# Altium schematic symbol library SCH-29364_a_Library.SchLib: 148 symbols
Pins are listed as number, name and electrical type; pins without a type are passive.

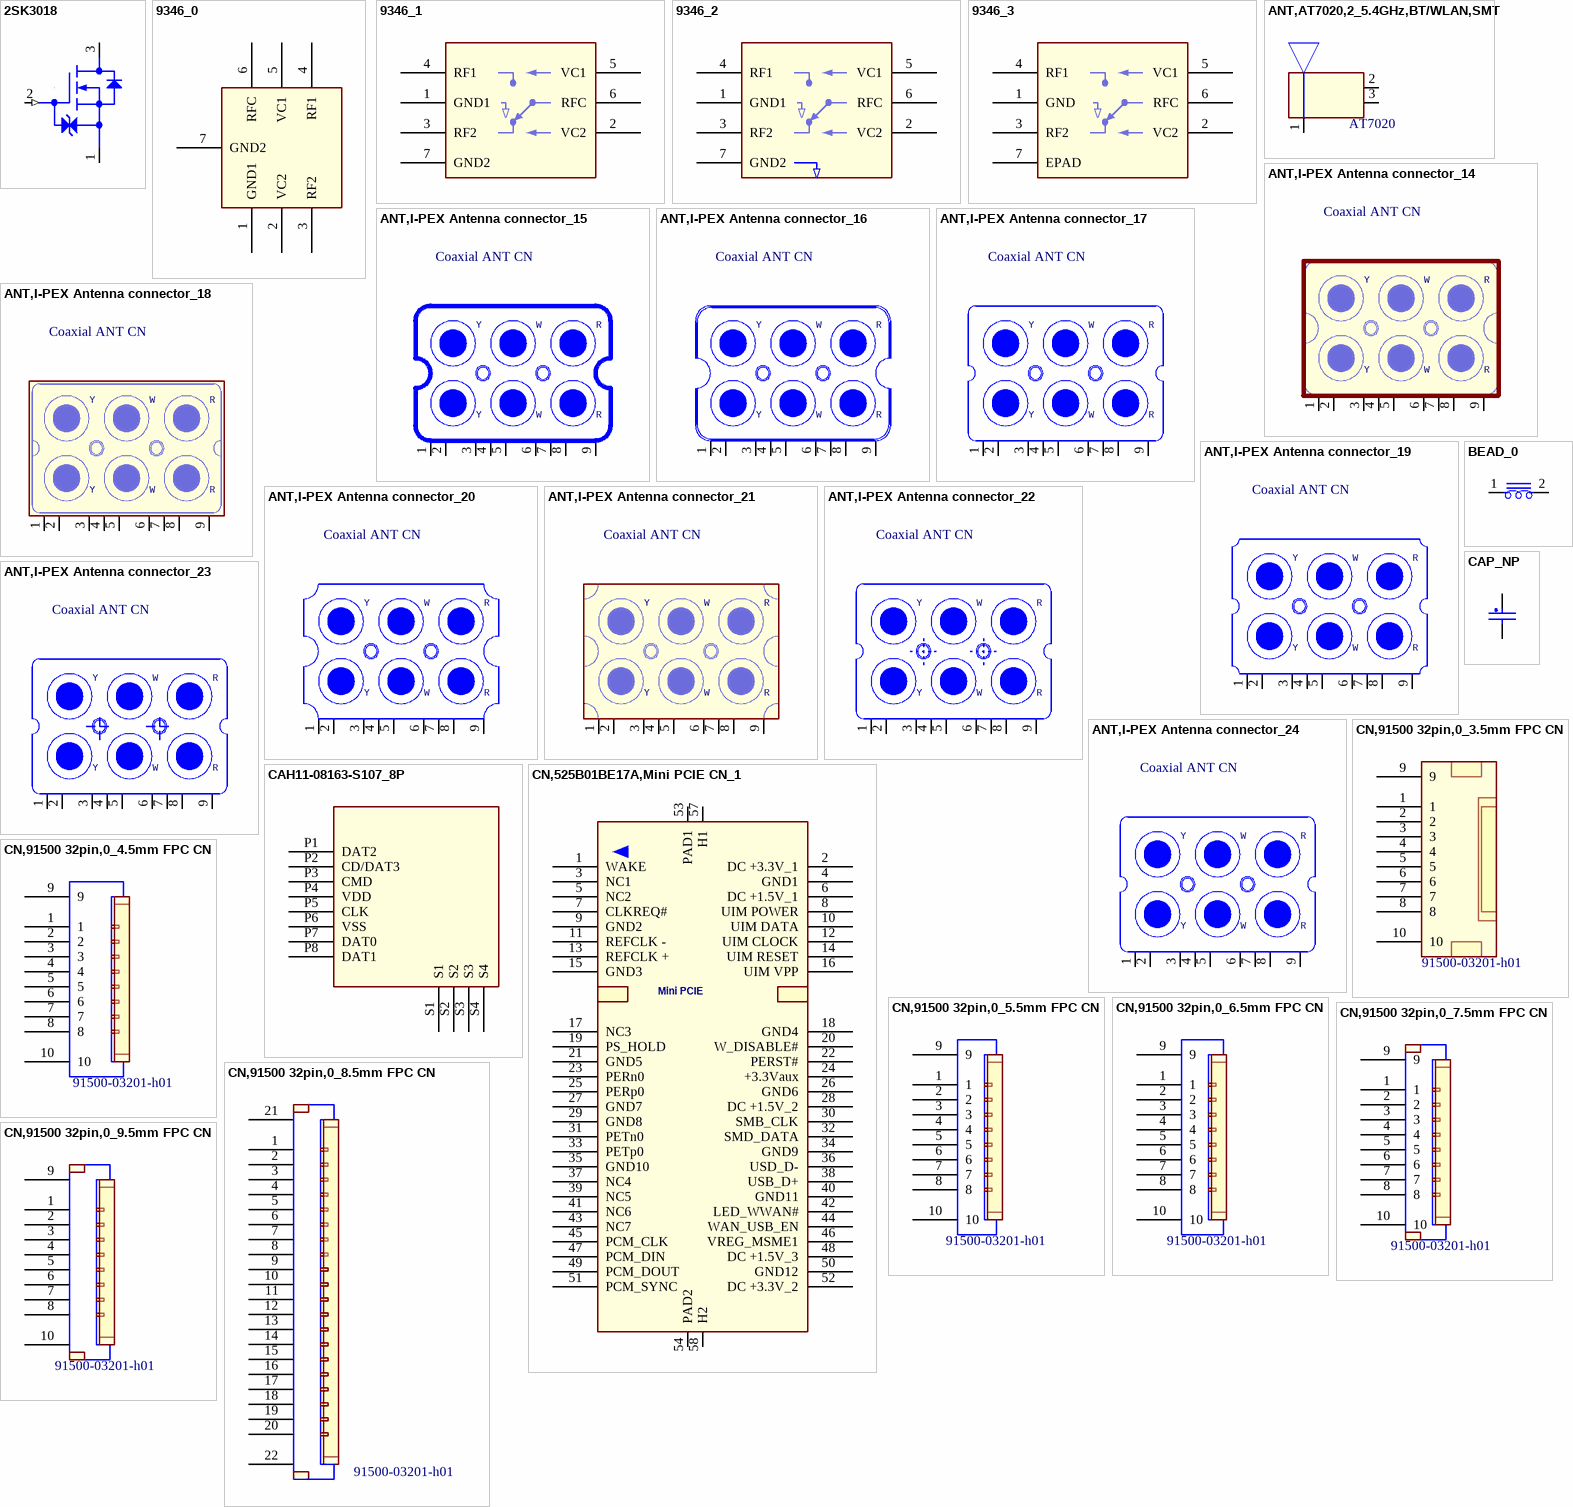
[diagram p0: symbols 2SK3018 to CN,91500 32pin,0_9.5mm FPC CN]

## 2SK3018
designator Q?
CLASS: IC
pins: 1 SOURCE, 2 GATE (in), 3 DRAIN

## 9346_0
designator U?
pins: 1 GND1, 2 VC2, 3 RF2, 4 RF1, 5 VC1, 6 RFC, 7 GND2

## 9346_1
designator U?
pins: 1 GND1, 2 VC2, 3 RF2, 4 RF1, 5 VC1, 6 RFC, 7 GND2

## 9346_2
designator U?
pins: 1 GND1, 2 VC2, 3 RF2, 4 RF1, 5 VC1, 6 RFC, 7 GND2

## 9346_3
designator U?
pins: 1 GND, 2 VC2, 3 RF2, 4 RF1, 5 VC1, 6 RFC, 7 EPAD

## ANT,AT7020,2_5.4GHz,BT/WLAN,SMT
designator A?, comment AT7020
ANT,AT7020,2.4GHz Multilayer Chip Antenna,BT/WLAN; Vendor: ACX; SPN: 99-26-130011; VPN: AT7020-E3R0HBAT/CF
footprint AT7020
pins: 1 FEED, 2 GND1, 3 GND2

## ANT,I-PEX Antenna connector_14
designator J?, comment Coaxial ANT CN
ANT,I-PEX Antenna connector; VPN: 20279-001 E-01; Vendor: I-PEX
footprint 20279-001
pins: 1, 2, 3, 4, 5, 6, 7, 8, 9
text: Y; W; R

## ANT,I-PEX Antenna connector_15
designator J?, comment Coaxial ANT CN
ANT,I-PEX Antenna connector; VPN: 20279-001 E-01; Vendor: I-PEX
footprint 20279-001
pins: 1, 2, 3, 4, 5, 6, 7, 8, 9
text: Y; W; R

## ANT,I-PEX Antenna connector_16
designator J?, comment Coaxial ANT CN
ANT,I-PEX Antenna connector; VPN: 20279-001 E-01; Vendor: I-PEX
footprint 20279-001
pins: 1, 2, 3, 4, 5, 6, 7, 8, 9
text: Y; W; R

## ANT,I-PEX Antenna connector_17
designator J?, comment Coaxial ANT CN
ANT,I-PEX Antenna connector; VPN: 20279-001 E-01; Vendor: I-PEX
footprint 20279-001
pins: 1, 2, 3, 4, 5, 6, 7, 8, 9
text: Y; W; R

## ANT,I-PEX Antenna connector_18
designator J?, comment Coaxial ANT CN
ANT,I-PEX Antenna connector; VPN: 20279-001 E-01; Vendor: I-PEX
footprint 20279-001
pins: 1, 2, 3, 4, 5, 6, 7, 8, 9
text: Y; W; R

## ANT,I-PEX Antenna connector_19
designator J?, comment Coaxial ANT CN
ANT,I-PEX Antenna connector; VPN: 20279-001 E-01; Vendor: I-PEX
footprint 20279-001
pins: 1, 2, 3, 4, 5, 6, 7, 8, 9
text: Y; W; R

## ANT,I-PEX Antenna connector_20
designator J?, comment Coaxial ANT CN
ANT,I-PEX Antenna connector; VPN: 20279-001 E-01; Vendor: I-PEX
footprint 20279-001
pins: 1, 2, 3, 4, 5, 6, 7, 8, 9
text: Y; W; R

## ANT,I-PEX Antenna connector_21
designator J?, comment Coaxial ANT CN
ANT,I-PEX Antenna connector; VPN: 20279-001 E-01; Vendor: I-PEX
footprint 20279-001
pins: 1, 2, 3, 4, 5, 6, 7, 8, 9
text: Y; W; R

## ANT,I-PEX Antenna connector_22
designator J?, comment Coaxial ANT CN
ANT,I-PEX Antenna connector; VPN: 20279-001 E-01; Vendor: I-PEX
footprint 20279-001
pins: 1, 2, 3, 4, 5, 6, 7, 8, 9
text: Y; W; R

## ANT,I-PEX Antenna connector_23
designator J?, comment Coaxial ANT CN
ANT,I-PEX Antenna connector; VPN: 20279-001 E-01; Vendor: I-PEX
footprint 20279-001
pins: 1, 2, 3, 4, 5, 6, 7, 8, 9
text: Y; W; R

## ANT,I-PEX Antenna connector_24
designator J?, comment Coaxial ANT CN
ANT,I-PEX Antenna connector; VPN: 20279-001 E-01; Vendor: I-PEX
footprint 20279-001
pins: 1, 2, 3, 4, 5, 6, 7, 8, 9
text: Y; W; R

## BEAD_0
designator L?
CLASS: DISCRETE
pins: 1, 2

## CAH11-08163-S107_8P
designator J?
CLASS: IO
pins: P1 DAT2, P2 CD/DAT3, P3 CMD, P4 VDD (power), P5 CLK, P6 VSS (power), P7 DAT0, P8 DAT1, S1 (power), S2 (power), S3 (power), S4 (power)

## CAP_NP
designator C?
CLASS: DISCRETE
pins: 1, 2

## CN,525B01BE17A,Mini PCIE CN_1
designator J?, comment Mini PCIE
CN,525B01BE17A,Mini PCIE,0.8mm Pitch,52Pin; Vendor: Concraft; VPN: 525B01BE17A
footprint 525B01BE17A
pins: 1 WAKE, 2 DC +3.3V_1, 3 NC1, 4 GND1, 5 NC2, 6 DC +1.5V_1, 7 CLKREQ#, 8 UIM POWER, 9 GND2, 10 UIM DATA, 11 REFCLK -, 12 UIM CLOCK, 13 REFCLK +, 14 UIM RESET, 15 GND3, 16 UIM VPP, 17 NC3, 18 GND4, 19 PS_HOLD, 20 W_DISABLE#, 21 GND5, 22 PERST#, 23 PERn0, 24 +3.3Vaux, 25 PERp0, 26 GND6, 27 GND7, 28 DC +1.5V_2, 29 GND8, 30 SMB_CLK, 31 PETn0, 32 SMD_DATA, 33 PETp0, 34 GND9, 35 GND10, 36 USD_D-, 37 NC4, 38 USB_D+, 39 NC5, 40 GND11, 41 NC6, 42 LED_WWAN#, 43 NC7, 44 WAN_USB_EN, 45 PCM_CLK, 46 VREG_MSME1, 47 PCM_DIN, 48 DC +1.5V_3, 49 PCM_DOUT, 50 GND12, 51 PCM_SYNC, 52 DC +3.3V_2, 53 PAD1, 54 PAD2, 57 H1, 58 H2

## CN,91500 32pin,0_3.5mm FPC CN
designator J?, comment 91500-03201-h01
CN,91500,0.5mm/32Pin FPC/FFC,; Vendor: Aces; VPN: 91500-03201-h01
footprint con32_0p5_91500-03201-h01
pins: 1, 2, 3, 4, 5, 6, 7, 8, 9, 10

## CN,91500 32pin,0_4.5mm FPC CN
designator J?, comment 91500-03201-h01
CN,91500,0.5mm/32Pin FPC/FFC,; Vendor: Aces; VPN: 91500-03201-h01
footprint con32_0p5_91500-03201-h01
pins: 1, 2, 3, 4, 5, 6, 7, 8, 9, 10

## CN,91500 32pin,0_5.5mm FPC CN
designator J?, comment 91500-03201-h01
CN,91500,0.5mm/32Pin FPC/FFC,; Vendor: Aces; VPN: 91500-03201-h01
footprint con32_0p5_91500-03201-h01
pins: 1, 2, 3, 4, 5, 6, 7, 8, 9, 10

## CN,91500 32pin,0_6.5mm FPC CN
designator J?, comment 91500-03201-h01
CN,91500,0.5mm/32Pin FPC/FFC,; Vendor: Aces; VPN: 91500-03201-h01
footprint con32_0p5_91500-03201-h01
pins: 1, 2, 3, 4, 5, 6, 7, 8, 9, 10

## CN,91500 32pin,0_7.5mm FPC CN
designator J?, comment 91500-03201-h01
CN,91500,0.5mm/32Pin FPC/FFC,; Vendor: Aces; VPN: 91500-03201-h01
footprint con32_0p5_91500-03201-h01
pins: 1, 2, 3, 4, 5, 6, 7, 8, 9, 10

## CN,91500 32pin,0_8.5mm FPC CN
designator J?, comment 91500-03201-h01
CN,91500,0.5mm/32Pin FPC/FFC,; Vendor: Aces; VPN: 91500-03201-h01
footprint con32_0p5_91500-03201-h01
pins: 1, 2, 3, 4, 5, 6, 7, 8, 9, 10, 11, 12, 13, 14, 15, 16, 17, 18, 19, 20, 21, 22

## CN,91500 32pin,0_9.5mm FPC CN
designator J?, comment 91500-03201-h01
CN,91500,0.5mm/32Pin FPC/FFC,; Vendor: Aces; VPN: 91500-03201-h01
footprint con32_0p5_91500-03201-h01
pins: 1, 2, 3, 4, 5, 6, 7, 8, 9, 10

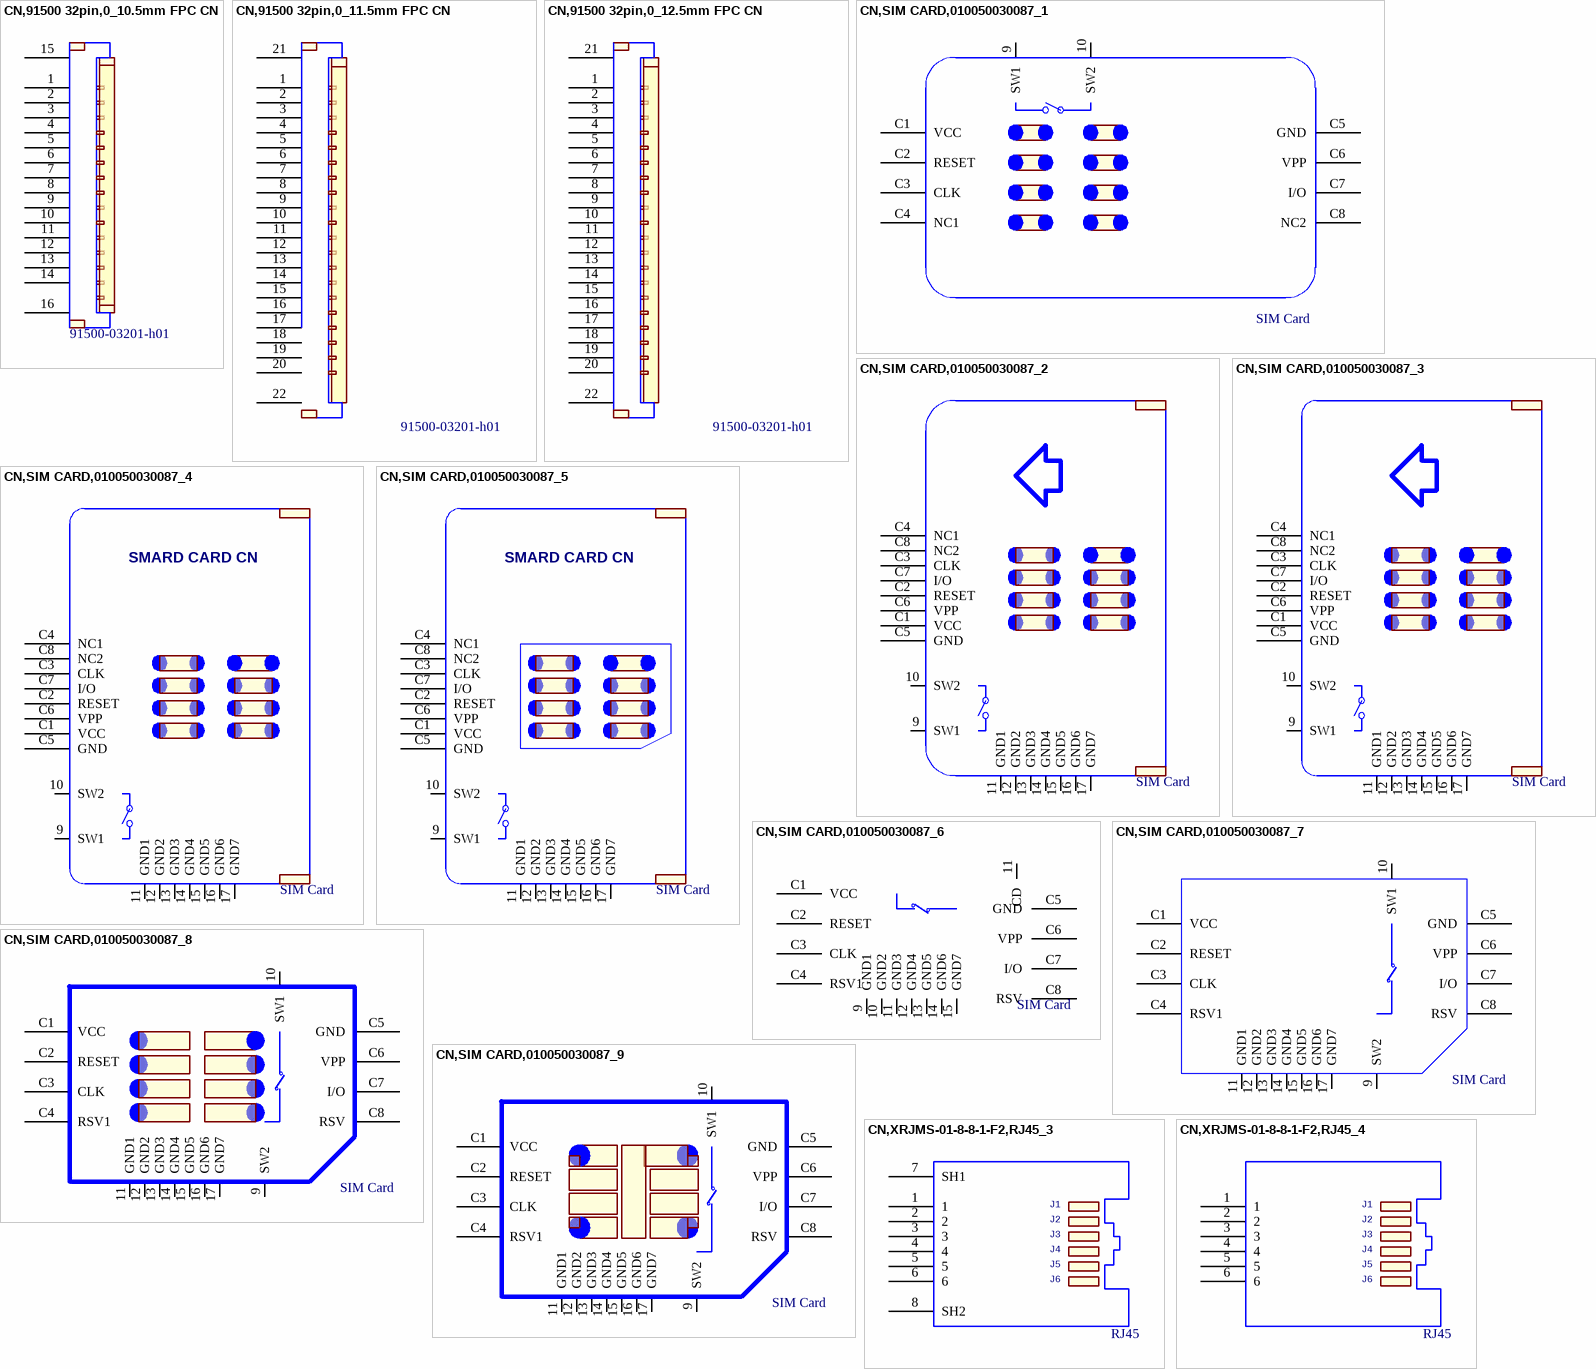
[diagram p1: symbols CN,91500 32pin,0_10.5mm FPC CN to CN,XRJMS-01-8-8-1-F2,RJ45_4]

## CN,91500 32pin,0_10.5mm FPC CN
designator J?, comment 91500-03201-h01
CN,91500,0.5mm/32Pin FPC/FFC,; Vendor: Aces; VPN: 91500-03201-h01
footprint con32_0p5_91500-03201-h01
pins: 1, 2, 3, 4, 5, 6, 7, 8, 9, 10, 11, 12, 13, 14, 15 M1, 16 M2

## CN,91500 32pin,0_11.5mm FPC CN
designator J?, comment 91500-03201-h01
CN,91500,0.5mm/32Pin FPC/FFC,; Vendor: Aces; VPN: 91500-03201-h01
footprint con32_0p5_91500-03201-h01
pins: 1, 2, 3, 4, 5, 6, 7, 8, 9, 10, 11, 12, 13, 14, 15 M1, 16 M2, 17, 18, 19, 20, 21, 22

## CN,91500 32pin,0_12.5mm FPC CN
designator J?, comment 91500-03201-h01
CN,91500,0.5mm/32Pin FPC/FFC,; Vendor: Aces; VPN: 91500-03201-h01
footprint con32_0p5_91500-03201-h01
pins: 1, 2, 3, 4, 5, 6, 7, 8, 9, 10, 11, 12, 13, 14, 15 M1, 16 M2, 17, 18, 19, 20, 21, 22

## CN,SIM CARD,010050030087_1
designator J?, comment SIM Card
CN,SIM CARD,010050030087,Sim Card Socket 6Pin With DET; VPN: 010050030087
footprint 010050030087
pins: 9 SW1, 10 SW2, C1 VCC, C2 RESET, C3 CLK, C4 NC1, C5 GND, C6 VPP, C7 I/O, C8 NC2

## CN,SIM CARD,010050030087_2
designator J?, comment SIM Card
CN,SIM CARD,010050030087,Sim Card Socket 6Pin With DET; VPN: 010050030087
footprint 010050030087
pins: 9 SW1, 10 SW2, 11 GND1, 12 GND2, 13 GND3, 14 GND4, 15 GND5, 16 GND6, 17 GND7, C1 VCC, C2 RESET, C3 CLK, C4 NC1, C5 GND, C6 VPP, C7 I/O, C8 NC2

## CN,SIM CARD,010050030087_3
designator J?, comment SIM Card
CN,SIM CARD,010050030087,Sim Card Socket 6Pin With DET; VPN: 010050030087
footprint 010050030087
pins: 9 SW1, 10 SW2, 11 GND1, 12 GND2, 13 GND3, 14 GND4, 15 GND5, 16 GND6, 17 GND7, C1 VCC, C2 RESET, C3 CLK, C4 NC1, C5 GND, C6 VPP, C7 I/O, C8 NC2

## CN,SIM CARD,010050030087_4
designator J?, comment SIM Card
CN,SIM CARD,010050030087,Sim Card Socket 6Pin With DET; VPN: 010050030087
footprint 010050030087
pins: 9 SW1, 10 SW2, 11 GND1, 12 GND2, 13 GND3, 14 GND4, 15 GND5, 16 GND6, 17 GND7, C1 VCC, C2 RESET, C3 CLK, C4 NC1, C5 GND, C6 VPP, C7 I/O, C8 NC2
text: SMARD CARD CN

## CN,SIM CARD,010050030087_5
designator J?, comment SIM Card
CN,SIM CARD,010050030087,Sim Card Socket 6Pin With DET; VPN: 010050030087
footprint 010050030087
pins: 9 SW1, 10 SW2, 11 GND1, 12 GND2, 13 GND3, 14 GND4, 15 GND5, 16 GND6, 17 GND7, C1 VCC, C2 RESET, C3 CLK, C4 NC1, C5 GND, C6 VPP, C7 I/O, C8 NC2
text: SMARD CARD CN

## CN,SIM CARD,010050030087_6
designator J?, comment SIM Card
CN,SIM CARD,010050030087,Sim Card Socket 6Pin With DET; VPN: 010050030087
footprint 010050030087
pins: 9 GND1, 10 GND2, 11 CD, 11 GND3, 12 GND4, 13 GND5, 14 GND6, 15 GND7, C1 VCC, C2 RESET, C3 CLK, C4 RSV1, C5 GND, C6 VPP, C7 I/O, C8 RSV

## CN,SIM CARD,010050030087_7
designator J?, comment SIM Card
CN,SIM CARD,010050030087,Sim Card Socket 6Pin With DET; VPN: 010050030087
footprint 010050030087
pins: 9 SW2, 10 SW1, 11 GND1, 12 GND2, 13 GND3, 14 GND4, 15 GND5, 16 GND6, 17 GND7, C1 VCC, C2 RESET, C3 CLK, C4 RSV1, C5 GND, C6 VPP, C7 I/O, C8 RSV

## CN,SIM CARD,010050030087_8
designator J?, comment SIM Card
CN,SIM CARD,010050030087,Sim Card Socket 6Pin With DET; VPN: 010050030087
footprint 010050030087
pins: 9 SW2, 10 SW1, 11 GND1, 12 GND2, 13 GND3, 14 GND4, 15 GND5, 16 GND6, 17 GND7, C1 VCC, C2 RESET, C3 CLK, C4 RSV1, C5 GND, C6 VPP, C7 I/O, C8 RSV

## CN,SIM CARD,010050030087_9
designator J?, comment SIM Card
CN,SIM CARD,010050030087,Sim Card Socket 6Pin With DET; VPN: 010050030087
footprint 010050030087
pins: 9 SW2, 10 SW1, 11 GND1, 12 GND2, 13 GND3, 14 GND4, 15 GND5, 16 GND6, 17 GND7, C1 VCC, C2 RESET, C3 CLK, C4 RSV1, C5 GND, C6 VPP, C7 I/O, C8 RSV

## CN,XRJMS-01-8-8-1-F2,RJ45_3
designator J?, comment RJ45
CN,XRJMS-01-8-8-1-F2,RJ45 with Green/Yellow LED; CLASS: IO; Vendor: XMULTIPLE; VPN: XRJMS-01-8-8-1-F2
footprint XRJMS-01-8-8-1-F2
pins: 1, 2, 3, 4, 5, 6, 7 SH1, 8 SH2
text: J1; J2; J3; J4; J5; J6

## CN,XRJMS-01-8-8-1-F2,RJ45_4
designator J?, comment RJ45
CN,XRJMS-01-8-8-1-F2,RJ45 with Green/Yellow LED; CLASS: IO; Vendor: XMULTIPLE; VPN: XRJMS-01-8-8-1-F2
footprint XRJMS-01-8-8-1-F2
pins: 1, 2, 3, 4, 5, 6
text: J1; J2; J3; J4; J5; J6

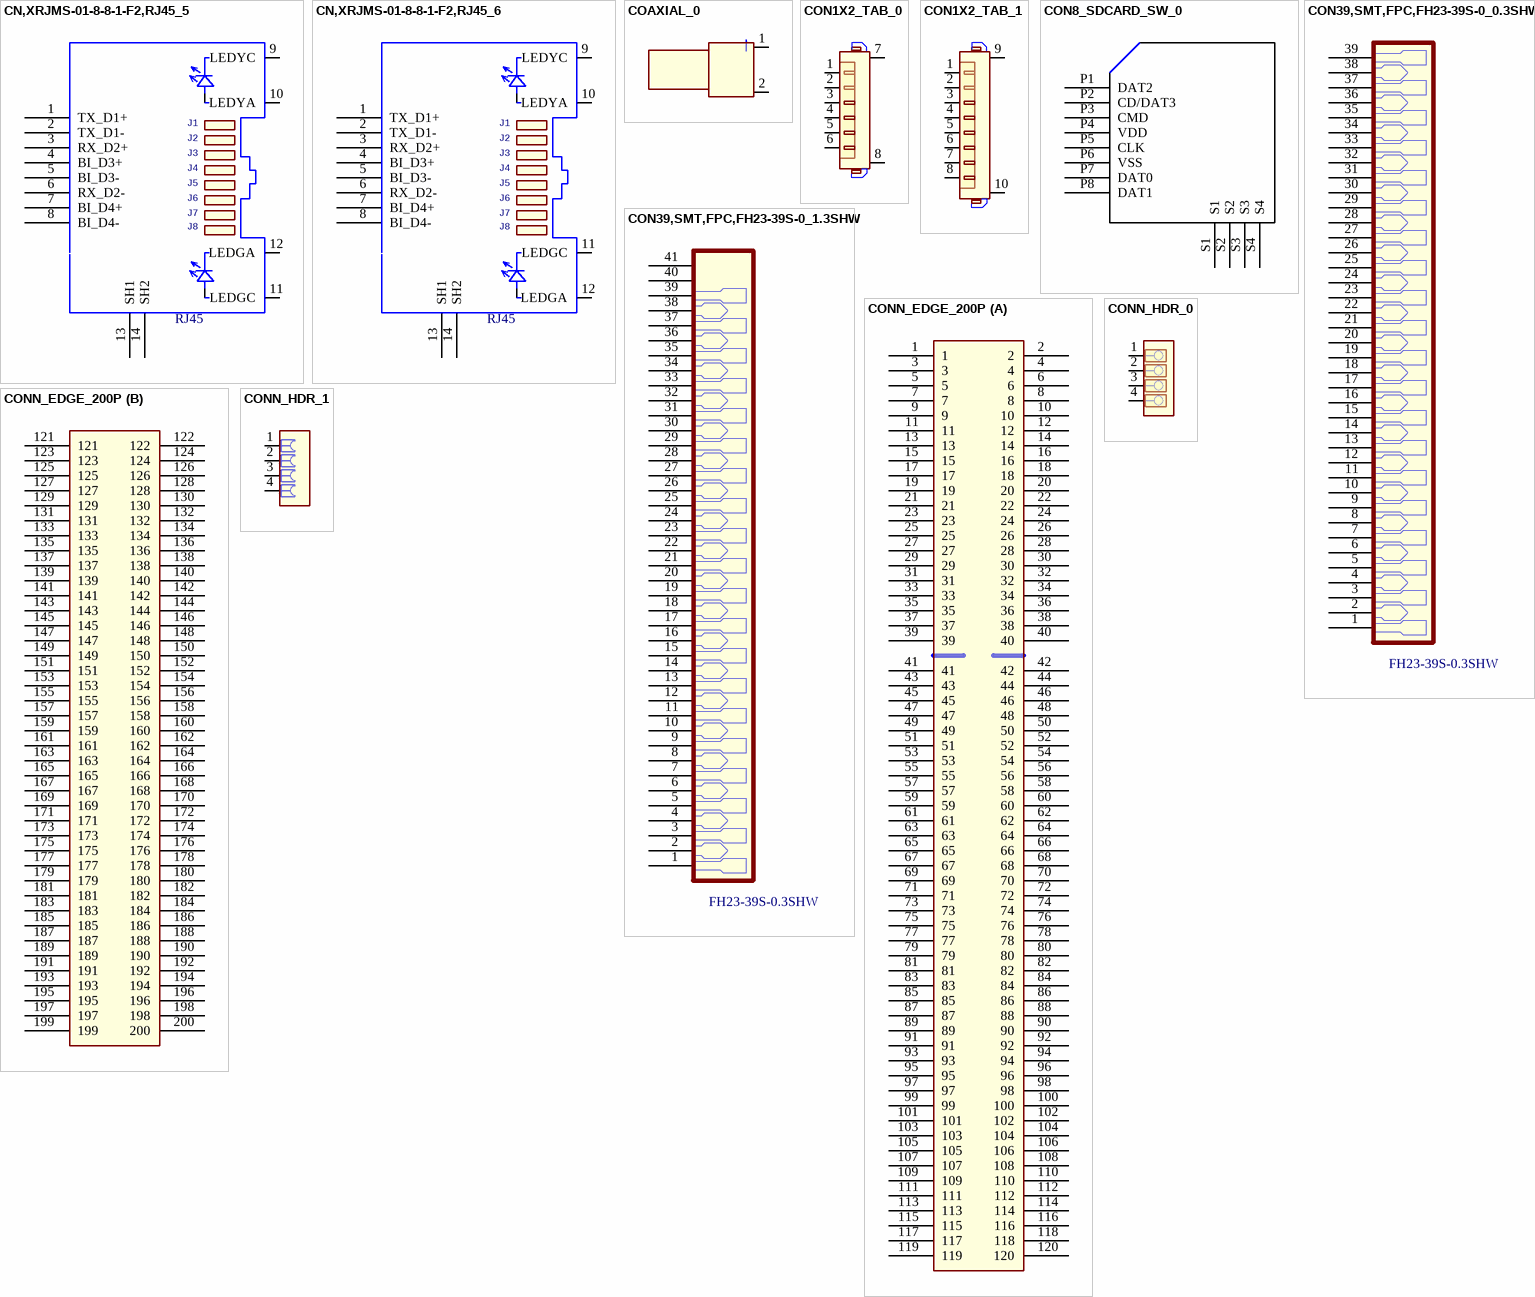
[diagram p2: symbols CN,XRJMS-01-8-8-1-F2,RJ45_5 to CONN_HDR_1]

## CN,XRJMS-01-8-8-1-F2,RJ45_5
designator J?, comment RJ45
CN,XRJMS-01-8-8-1-F2,RJ45 with Green/Yellow LED; CLASS: IO; Vendor: XMULTIPLE; VPN: XRJMS-01-8-8-1-F2
footprint XRJMS-01-8-8-1-F2
pins: 1 TX_D1+, 2 TX_D1-, 3 RX_D2+, 4 BI_D3+, 5 BI_D3-, 6 RX_D2-, 7 BI_D4+, 8 BI_D4-, 9 LEDYC, 10 LEDYA, 11 LEDGC, 12 LEDGA, 13 SH1, 14 SH2
text: J1; J2; J3; J4; J5; J6; J7; J8

## CN,XRJMS-01-8-8-1-F2,RJ45_6
designator J?, comment RJ45
CN,XRJMS-01-8-8-1-F2,RJ45 with Green/Yellow LED; CLASS: IO; Vendor: XMULTIPLE; VPN: XRJMS-01-8-8-1-F2
footprint XRJMS-01-8-8-1-F2
pins: 1 TX_D1+, 2 TX_D1-, 3 RX_D2+, 4 BI_D3+, 5 BI_D3-, 6 RX_D2-, 7 BI_D4+, 8 BI_D4-, 9 LEDYC, 10 LEDYA, 11 LEDGC, 12 LEDGA, 13 SH1, 14 SH2
text: J1; J2; J3; J4; J5; J6; J7; J8

## COAXIAL_0
designator J?
pins: 1 IN, 2 GND (power)

## CON1X2_TAB_0
designator J?
CLASS: IO
footprint W12503-S160501A
pins: 1, 2, 3, 4, 5, 6, 7, 8

## CON1X2_TAB_1
designator J?
CLASS: IO
footprint W12503-S160501A
pins: 1, 2, 3, 4, 5, 6, 7, 8, 9, 10

## CON8_SDCARD_SW_0
designator J?
CLASS: IO
pins: P1 DAT2, P2 CD/DAT3, P3 CMD, P4 VDD (power), P5 CLK, P6 VSS (power), P7 DAT0, P8 DAT1, S1, S2, S3, S4

## CON39,SMT,FPC,FH23-39S-0_0.3SHW
designator J?, comment FH23-39S-0.3SHW
CON39,FH23-39S-0.3SHW,0.3mm/39Pin FPC,Bottom contact; Vendor: Hirose; SPN: 99X30-210011; VPN: FH23-39S-0.3SHW
footprint FH23-39SH
pins: 1, 2, 3, 4, 5, 6, 7, 8, 9, 10, 11, 12, 13, 14, 15, 16, 17, 18, 19, 20, 21, 22, 23, 24, 25, 26, 27, 28, 29, 30, 31, 32, 33, 34, 35, 36, 37, 38, 39

## CON39,SMT,FPC,FH23-39S-0_1.3SHW
designator J?, comment FH23-39S-0.3SHW
CON39,FH23-39S-0.3SHW,0.3mm/39Pin FPC,Bottom contact; SPN: 99X30-210011; Vendor: Hirose; VPN: FH23-39S-0.3SHW
footprint FH23-39SH
pins: 1, 2, 3, 4, 5, 6, 7, 8, 9, 10, 11, 12, 13, 14, 15, 16, 17, 18, 19, 20, 21, 22, 23, 24, 25, 26, 27, 28, 29, 30, 31, 32, 33, 34, 35, 36, 37, 38, 39, 40, 41

## CONN_EDGE_200P
designator P?
CLASS: IO
part A pins: 1, 2, 3, 4, 5, 6, 7, 8, 9, 10, 11, 12, 13, 14, 15, 16, 17, 18, 19, 20, 21, 22, 23, 24, 25, 26, 27, 28, 29, 30, 31, 32, 33, 34, 35, 36, 37, 38, 39, 40, 41, 42, 43, 44, 45, 46, 47, 48, 49, 50, 51, 52, 53, 54, 55, 56, 57, 58, 59, 60, 61, 62, 63, 64, 65, 66, 67, 68, 69, 70, 71, 72, 73, 74, 75, 76, 77, 78, 79, 80, 81, 82, 83, 84, 85, 86, 87, 88, 89, 90, 91, 92, 93, 94, 95, 96, 97, 98, 99, 100, 101, 102, 103, 104, 105, 106, 107, 108, 109, 110, 111, 112, 113, 114, 115, 116, 117, 118, 119, 120
part B pins: 121, 122, 123, 124, 125, 126, 127, 128, 129, 130, 131, 132, 133, 134, 135, 136, 137, 138, 139, 140, 141, 142, 143, 144, 145, 146, 147, 148, 149, 150, 151, 152, 153, 154, 155, 156, 157, 158, 159, 160, 161, 162, 163, 164, 165, 166, 167, 168, 169, 170, 171, 172, 173, 174, 175, 176, 177, 178, 179, 180, 181, 182, 183, 184, 185, 186, 187, 188, 189, 190, 191, 192, 193, 194, 195, 196, 197, 198, 199, 200

## CONN_HDR_0
designator J?
CLASS: IO
pins: 1, 2, 3, 4

## CONN_HDR_1
designator J?
CLASS: IO
pins: 1, 2, 3, 4

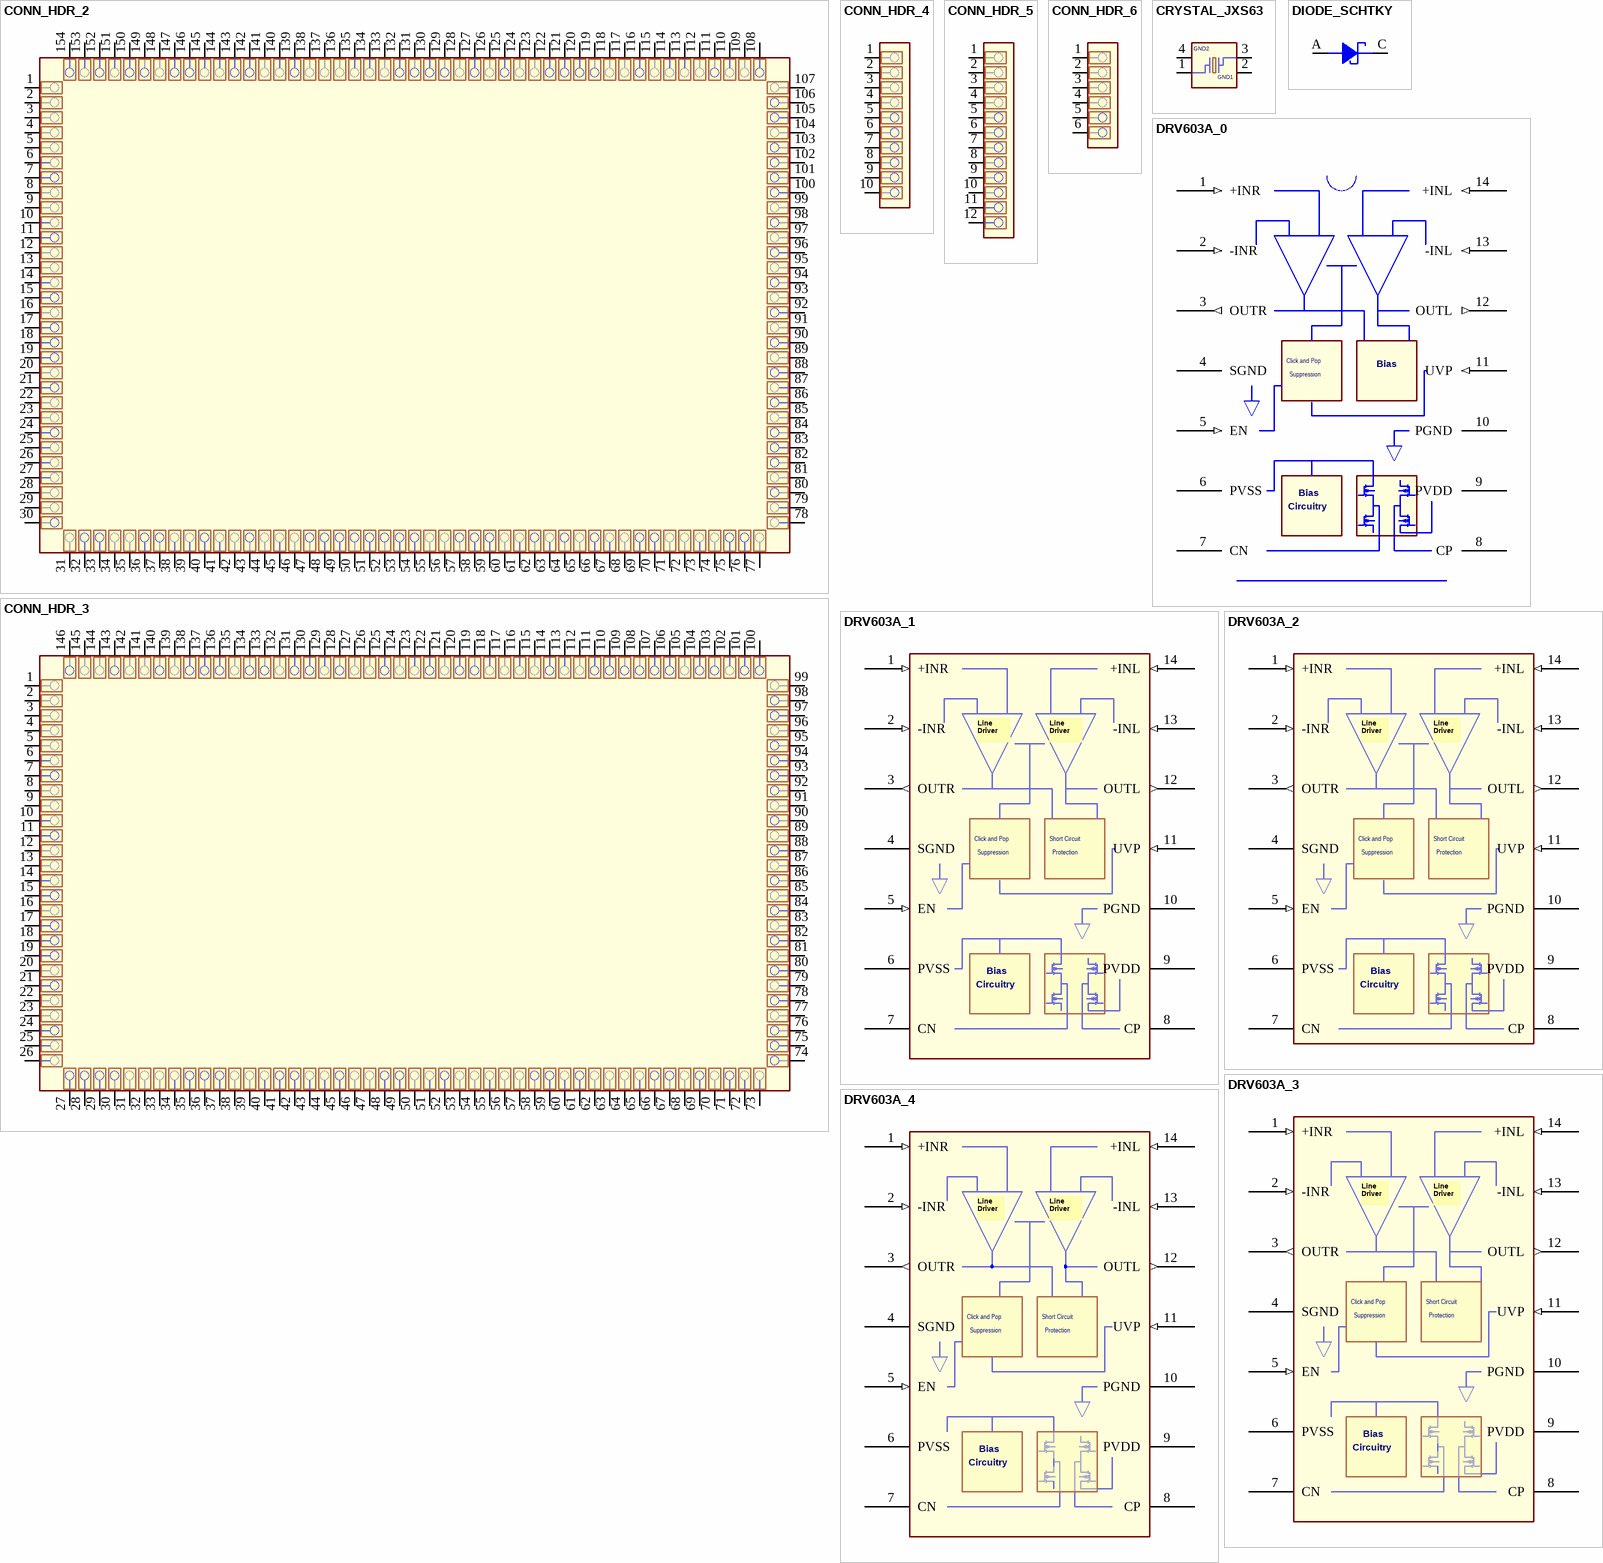
[diagram p3: symbols CONN_HDR_2 to DRV603A_4]

## CONN_HDR_2
designator J?
CLASS: IO
pins: 1, 2, 3, 4, 5, 6, 7, 8, 9, 10, 11, 12, 13, 14, 15, 16, 17, 18, 19, 20, 21, 22, 23, 24, 25, 26, 27, 28, 29, 30, 31, 32, 33, 34, 35, 36, 37, 38, 39, 40, 41, 42, 43, 44, 45, 46, 47, 48, 49, 50, 51, 52, 53, 54, 55, 56, 57, 58, 59, 60, 61, 62, 63, 64, 65, 66, 67, 68, 69, 70, 71, 72, 73, 74, 75, 76, 77, 78, 79, 80, 81, 82, 83, 84, 85, 86, 87, 88, 89, 90, 91, 92, 93, 94, 95, 96, 97, 98, 99, 100, 101, 102, 103, 104, 105, 106, 107, 108, 109, 110, 111, 112, 113, 114, 115, 116, 117, 118, 119, 120, 121, 122, 123, 124, 125, 126, 127, 128, 129, 130, 131, 132, 133, 134, 135, 136, 137, 138, 139, 140, 141, 142, 143, 144, 145, 146, 147, 148, 149, 150, 151, 152, 153, 154

## CONN_HDR_3
designator J?
CLASS: IO
pins: 1, 2, 3, 4, 5, 6, 7, 8, 9, 10, 11, 12, 13, 14, 15, 16, 17, 18, 19, 20, 21, 22, 23, 24, 25, 26, 27, 28, 29, 30, 31, 32, 33, 34, 35, 36, 37, 38, 39, 40, 41, 42, 43, 44, 45, 46, 47, 48, 49, 50, 51, 52, 53, 54, 55, 56, 57, 58, 59, 60, 61, 62, 63, 64, 65, 66, 67, 68, 69, 70, 71, 72, 73, 74, 75, 76, 77, 78, 79, 80, 81, 82, 83, 84, 85, 86, 87, 88, 89, 90, 91, 92, 93, 94, 95, 96, 97, 98, 99, 100, 101, 102, 103, 104, 105, 106, 107, 108, 109, 110, 111, 112, 113, 114, 115, 116, 117, 118, 119, 120, 121, 122, 123, 124, 125, 126, 127, 128, 129, 130, 131, 132, 133, 134, 135, 136, 137, 138, 139, 140, 141, 142, 143, 144, 145, 146

## CONN_HDR_4
designator J?
CLASS: IO
pins: 1, 2, 3, 4, 5, 6, 7, 8, 9, 10

## CONN_HDR_5
designator J?
CLASS: IO
pins: 1, 2, 3, 4, 5, 6, 7, 8, 9, 10, 11, 12

## CONN_HDR_6
designator J?
CLASS: IO
pins: 1, 2, 3, 4, 5, 6

## CRYSTAL_JXS63
designator Y?
CLASS: IC
pins: 1, 2 GND1 (power), 3, 4 GND2 (power)

## DIODE_SCHTKY
designator D?
CLASS: IC
pins: A, C

## DRV603A_0
designator U?
pins: 1 +INR (in), 2 -INR (in), 3 OUTR (out), 4 SGND (power), 5 EN (in), 6 PVSS (power), 7 CN, 8 CP, 9 PVDD (power), 10 PGND (power), 11 UVP (in), 12 OUTL (out), 13 -INL (in), 14 +INL (in)
text: Click and Pop; Bias; Suppression; Circuitry

## DRV603A_1
designator U?
pins: 1 +INR (in), 2 -INR (in), 3 OUTR (out), 4 SGND (power), 5 EN (in), 6 PVSS (power), 7 CN, 8 CP, 9 PVDD (power), 10 PGND (power), 11 UVP (in), 12 OUTL (out), 13 -INL (in), 14 +INL (in)
text: Line / Driver; Click and Pop; Short Circuit; Suppression; Protection; Bias; Circuitry

## DRV603A_2
designator U?
pins: 1 +INR (in), 2 -INR (in), 3 OUTR (out), 4 SGND (power), 5 EN (in), 6 PVSS (power), 7 CN, 8 CP, 9 PVDD (power), 10 PGND (power), 11 UVP (in), 12 OUTL (out), 13 -INL (in), 14 +INL (in)
text: Line / Driver; Click and Pop; Short Circuit; Suppression; Protection; Bias; Circuitry

## DRV603A_3
designator U?
pins: 1 +INR (in), 2 -INR (in), 3 OUTR (out), 4 SGND (power), 5 EN (in), 6 PVSS (power), 7 CN, 8 CP, 9 PVDD (power), 10 PGND (power), 11 UVP (in), 12 OUTL (out), 13 -INL (in), 14 +INL (in)
text: Line / Driver; Click and Pop; Short Circuit; Suppression; Protection; Bias; Circuitry

## DRV603A_4
designator U?
pins: 1 +INR (in), 2 -INR (in), 3 OUTR (out), 4 SGND (power), 5 EN (in), 6 PVSS (power), 7 CN, 8 CP, 9 PVDD (power), 10 PGND (power), 11 UVP (in), 12 OUTL (out), 13 -INL (in), 14 +INL (in)
text: Line / Driver; Click and Pop; Short Circuit; Suppression; Protection; Bias; Circuitry

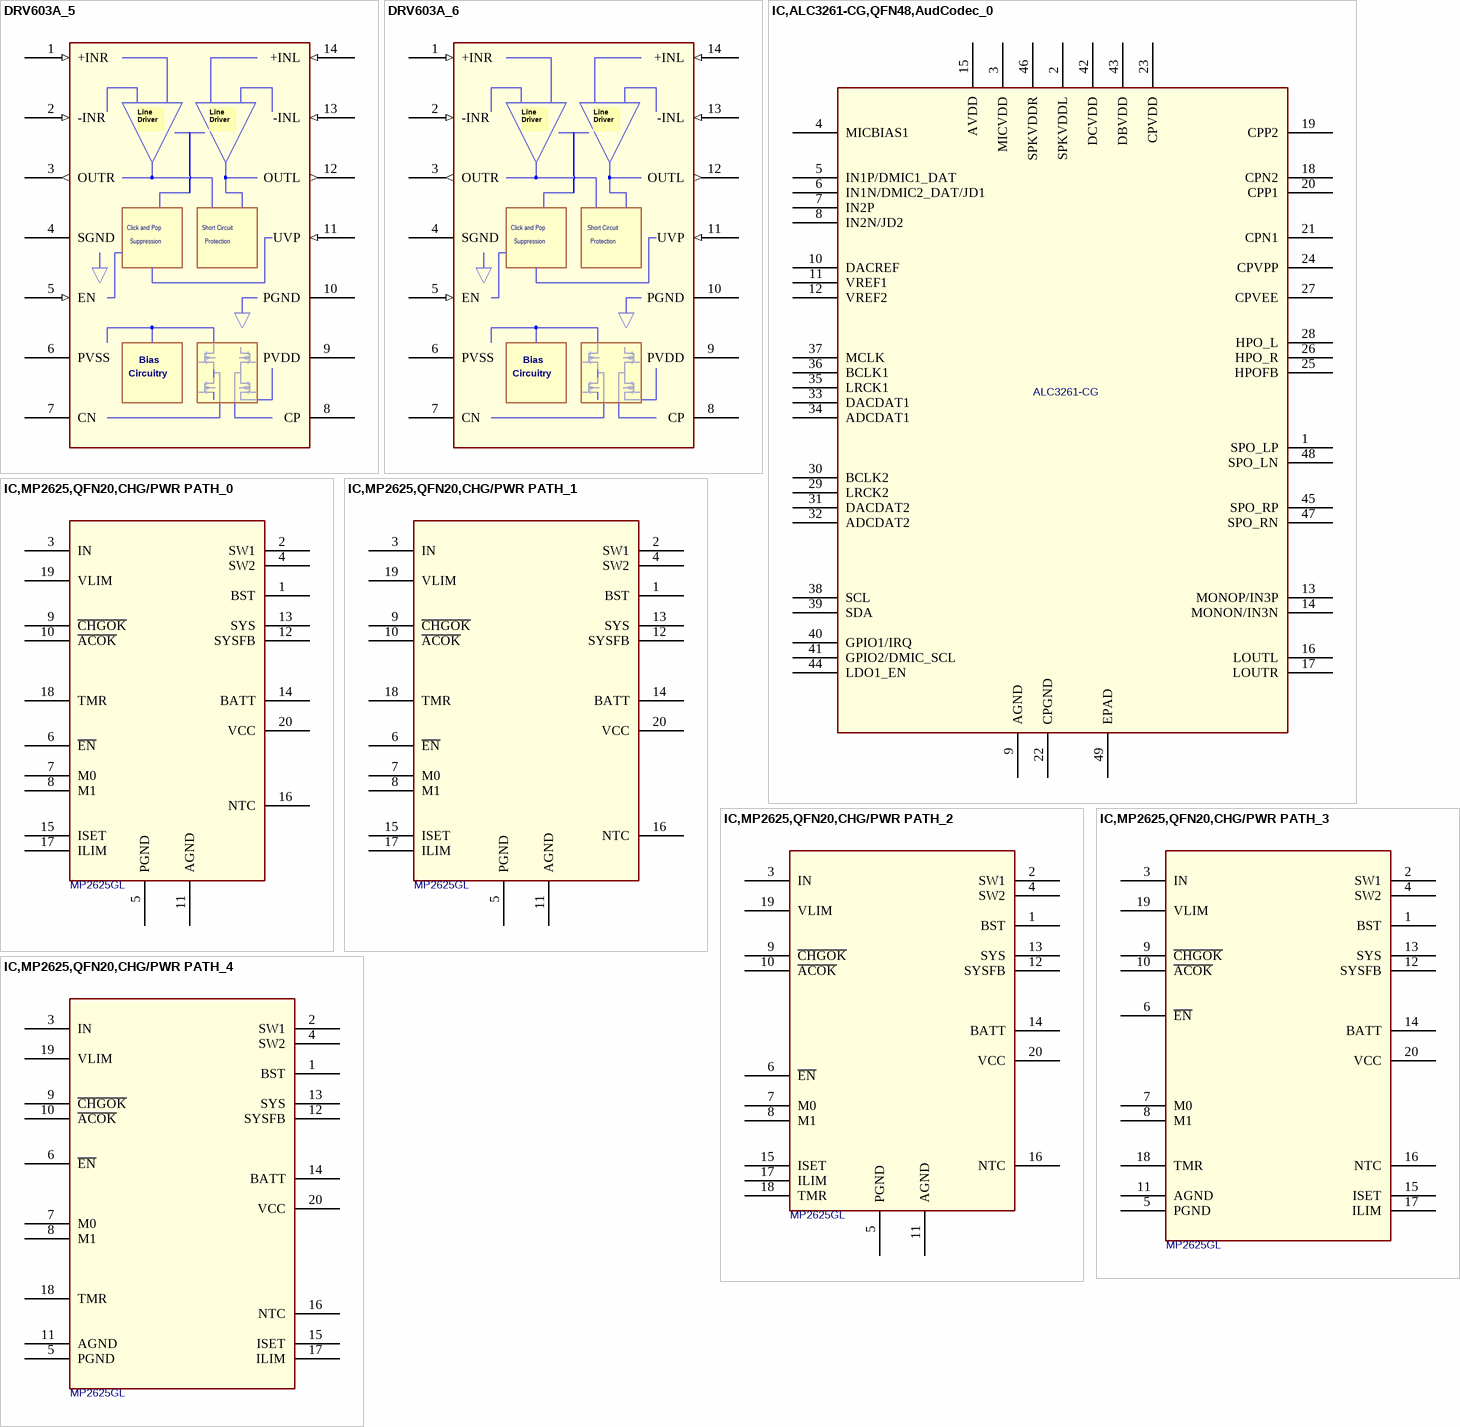
[diagram p4: symbols DRV603A_5 to IC,MP2625,QFN20,CHG/PWR PATH_4]

## DRV603A_5
designator U?
pins: 1 +INR (in), 2 -INR (in), 3 OUTR (out), 4 SGND (power), 5 EN (in), 6 PVSS (power), 7 CN, 8 CP, 9 PVDD (power), 10 PGND (power), 11 UVP (in), 12 OUTL (out), 13 -INL (in), 14 +INL (in)
text: Line / Driver; Click and Pop; Short Circuit; Suppression; Protection; Bias; Circuitry

## DRV603A_6
designator U?
pins: 1 +INR (in), 2 -INR (in), 3 OUTR (out), 4 SGND (power), 5 EN (in), 6 PVSS (power), 7 CN, 8 CP, 9 PVDD (power), 10 PGND (power), 11 UVP (in), 12 OUTL (out), 13 -INL (in), 14 +INL (in)
text: Line / Driver; Click and Pop; Short Circuit; Suppression; Protection; Bias; Circuitry

## IC,ALC3261-CG,QFN48,AudCodec_0
designator U?, comment ALC3261-CG
Vendor: Realtek; VPN: ALC3261-CG
footprint QFN48
pins: 1 SPO_LP, 2 SPKVDDL, 3 MICVDD, 4 MICBIAS1, 5 IN1P/DMIC1_DAT, 6 IN1N/DMIC2_DAT/JD1, 7 IN2P, 8 IN2N/JD2, 9 AGND, 10 DACREF, 11 VREF1, 12 VREF2, 13 MONOP/IN3P, 14 MONON/IN3N, 15 AVDD, 16 LOUTL, 17 LOUTR, 18 CPN2, 19 CPP2, 20 CPP1, 21 CPN1, 22 CPGND, 23 CPVDD, 24 CPVPP, 25 HPOFB, 26 HPO_R, 27 CPVEE, 28 HPO_L, 29 LRCK2, 30 BCLK2, 31 DACDAT2, 32 ADCDAT2, 33 DACDAT1, 34 ADCDAT1, 35 LRCK1, 36 BCLK1, 37 MCLK, 38 SCL, 39 SDA, 40 GPIO1/IRQ, 41 GPIO2/DMIC_SCL, 42 DCVDD, 43 DBVDD, 44 LDO1_EN, 45 SPO_RP, 46 SPKVDDR, 47 SPO_RN, 48 SPO_LN, 49 EPAD

## IC,MP2625,QFN20,CHG/PWR PATH_0
designator U?, comment MP2625GL
IC,MP2625,QFN20,SINGLE CELL SWITCHING CHARGER WITH POWER PATH CONTROL; Vendor: MPS; VPN: MP2625GL
footprint qfn20_3x4mm
pins: 1 BST, 2 SW1, 3 IN, 4 SW2, 5 PGND, 6 ~{EN}, 7 M0, 8 M1, 9 ~{CHGOK}, 10 ~{ACOK}, 11 AGND, 12 SYSFB, 13 SYS, 14 BATT, 15 ISET, 16 NTC, 17 ILIM, 18 TMR, 19 VLIM, 20 VCC

## IC,MP2625,QFN20,CHG/PWR PATH_1
designator U?, comment MP2625GL
IC,MP2625,QFN20,SINGLE CELL SWITCHING CHARGER WITH POWER PATH CONTROL; Vendor: MPS; VPN: MP2625GL
footprint qfn20_3x4mm
pins: 1 BST, 2 SW1, 3 IN, 4 SW2, 5 PGND, 6 ~{EN}, 7 M0, 8 M1, 9 ~{CHGOK}, 10 ~{ACOK}, 11 AGND, 12 SYSFB, 13 SYS, 14 BATT, 15 ISET, 16 NTC, 17 ILIM, 18 TMR, 19 VLIM, 20 VCC

## IC,MP2625,QFN20,CHG/PWR PATH_2
designator U?, comment MP2625GL
IC,MP2625,QFN20,SINGLE CELL SWITCHING CHARGER WITH POWER PATH CONTROL; Vendor: MPS; VPN: MP2625GL
footprint qfn20_3x4mm
pins: 1 BST, 2 SW1, 3 IN, 4 SW2, 5 PGND, 6 ~{EN}, 7 M0, 8 M1, 9 ~{CHGOK}, 10 ~{ACOK}, 11 AGND, 12 SYSFB, 13 SYS, 14 BATT, 15 ISET, 16 NTC, 17 ILIM, 18 TMR, 19 VLIM, 20 VCC

## IC,MP2625,QFN20,CHG/PWR PATH_3
designator U?, comment MP2625GL
IC,MP2625,QFN20,SINGLE CELL SWITCHING CHARGER WITH POWER PATH CONTROL; Vendor: MPS; VPN: MP2625GL
footprint qfn20_3x4mm
pins: 1 BST, 2 SW1, 3 IN, 4 SW2, 5 PGND, 6 ~{EN}, 7 M0, 8 M1, 9 ~{CHGOK}, 10 ~{ACOK}, 11 AGND, 12 SYSFB, 13 SYS, 14 BATT, 15 ISET, 16 NTC, 17 ILIM, 18 TMR, 19 VLIM, 20 VCC

## IC,MP2625,QFN20,CHG/PWR PATH_4
designator U?, comment MP2625GL
IC,MP2625,QFN20,SINGLE CELL SWITCHING CHARGER WITH POWER PATH CONTROL; Vendor: MPS; VPN: MP2625GL
footprint qfn20_3x4mm
pins: 1 BST, 2 SW1, 3 IN, 4 SW2, 5 PGND, 6 ~{EN}, 7 M0, 8 M1, 9 ~{CHGOK}, 10 ~{ACOK}, 11 AGND, 12 SYSFB, 13 SYS, 14 BATT, 15 ISET, 16 NTC, 17 ILIM, 18 TMR, 19 VLIM, 20 VCC

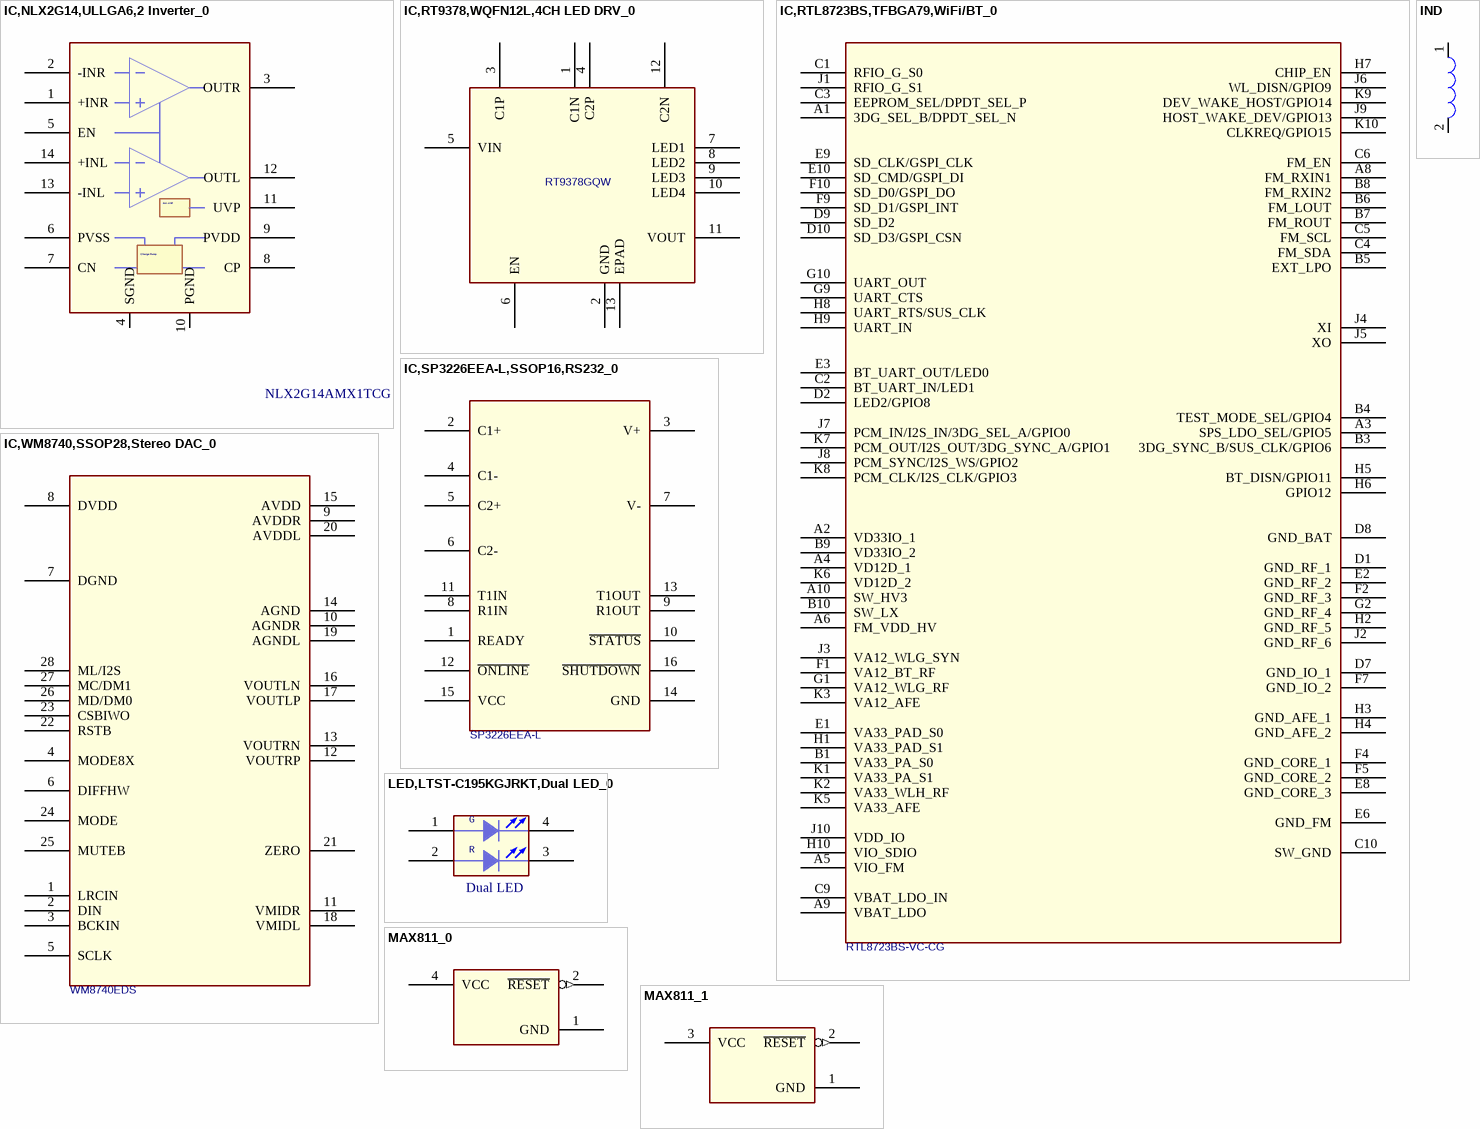
[diagram p5: symbols IC,NLX2G14,ULLGA6,2 Inverter_0 to MAX811_1]

## IC,NLX2G14,ULLGA6,2 Inverter_0
designator U?, comment NLX2G14AMX1TCG
IC,NLX2G14AMX1TCG,ULLGA6,Dual Schmitt-Trigger Inverter; Vendor: ON SEMI; VPN: NLX2G14AMX1TCG
footprint ullga6_0p5_1p45x1mm
pins: 1 +INR, 2 -INR, 3 OUTR, 4 SGND, 5 EN, 6 PVSS, 7 CN, 8 CP, 9 PVDD, 10 PGND, 11 UVP, 12 OUTL, 13 -INL, 14 +INL
text: Ext. UVP; Charge Pump

## IC,RT9378,WQFN12L,4CH LED DRV_0
designator U?, comment RT9378GQW
IC,RT9378,WQFN12L,4 CHs 100mA x1/x1.5/x2 Charge Pump White LED Driver; Vendor: Richtek; VPN: RT9378GQW
footprint wqfn12l_0p4_2x2mm
pins: 1 C1N, 2 GND, 3 C1P, 4 C2P, 5 VIN, 6 EN, 7 LED1, 8 LED2, 9 LED3, 10 LED4, 11 VOUT, 12 C2N, 13 EPAD

## IC,RTL8723BS,TFBGA79,WiFi/BT_0
designator U?, comment RTL8723BS-VC-CG
IC,RTL8723BS,TFBGA79,WiFi/BT; Vendor: Realtek; VPN: RTL8723BS-VC-CG
footprint TFBGA79
pins: A1 3DG_SEL_B/DPDT_SEL_N, A2 VD33IO_1, A3 SPS_LDO_SEL/GPIO5, A4 VD12D_1, A5 VIO_FM, A6 FM_VDD_HV, A8 FM_RXIN1, A9 VBAT_LDO, A10 SW_HV3, B1 VA33_PA_S0, B3 3DG_SYNC_B/SUS_CLK/GPIO6, B4 TEST_MODE_SEL/GPIO4, B5 EXT_LPO, B6 FM_LOUT, B7 FM_ROUT, B8 FM_RXIN2, B9 VD33IO_2, B10 SW_LX, C1 RFIO_G_S0, C2 BT_UART_IN/LED1, C3 EEPROM_SEL/DPDT_SEL_P, C4 FM_SDA, C5 FM_SCL, C6 FM_EN, C9 VBAT_LDO_IN, C10 SW_GND, D1 GND_RF_1, D2 LED2/GPIO8, D7 GND_IO_1, D8 GND_BAT, D9 SD_D2, D10 SD_D3/GSPI_CSN, E1 VA33_PAD_S0, E2 GND_RF_2, E3 BT_UART_OUT/LED0, E6 GND_FM, E8 GND_CORE_3, E9 SD_CLK/GSPI_CLK, E10 SD_CMD/GSPI_DI, F1 VA12_BT_RF, F2 GND_RF_3, F4 GND_CORE_1, F5 GND_CORE_2, F7 GND_IO_2, F9 SD_D1/GSPI_INT, F10 SD_D0/GSPI_DO, G1 VA12_WLG_RF, G2 GND_RF_4, G9 UART_CTS, G10 UART_OUT, H1 VA33_PAD_S1, H2 GND_RF_5, H3 GND_AFE_1, H4 GND_AFE_2, H5 BT_DISN/GPIO11, H6 GPIO12, H7 CHIP_EN, H8 UART_RTS/SUS_CLK, H9 UART_IN, H10 VIO_SDIO, J1 RFIO_G_S1, J2 GND_RF_6, J3 VA12_WLG_SYN, J4 XI, J5 XO, J6 WL_DISN/GPIO9, J7 PCM_IN/I2S_IN/3DG_SEL_A/GPIO0, J8 PCM_SYNC/I2S_WS/GPIO2, J9 HOST_WAKE_DEV/GPIO13, J10 VDD_IO, K1 VA33_PA_S1, K2 VA33_WLH_RF, K3 VA12_AFE, K5 VA33_AFE, K6 VD12D_2, K7 PCM_OUT/I2S_OUT/3DG_SYNC_A/GPIO1, K8 PCM_CLK/I2S_CLK/GPIO3, K9 DEV_WAKE_HOST/GPIO14, K10 CLKREQ/GPIO15

## IC,SP3226EEA-L,SSOP16,RS232_0
designator U?, comment SP3226EEA-L
IC,SP3226EEA-L,SSOP16,RS232; Vendor: Exar; VPN: SP3226EEA-L
footprint ssop16_0p65_7p8x6p2mm
pins: 1 READY, 2 C1+, 3 V+, 4 C1-, 5 C2+, 6 C2-, 7 V-, 8 R1IN, 9 R1OUT, 10 ~{STATUS}, 11 T1IN, 12 ~{ONLINE}, 13 T1OUT, 14 GND, 15 VCC, 16 ~{SHUTDOWN}

## IC,WM8740,SSOP28,Stereo DAC_0
designator U?, comment WM8740EDS
IC,WM8740,SSOP28,24bit/192K Stereo DAC; Vendor: Wolfson; VPN: WM8740EDS
footprint ssop28_0p65_10p2x7p8mm
pins: 1 LRCIN, 2 DIN, 3 BCKIN, 4 MODE8X, 5 SCLK, 6 DIFFHW, 7 DGND, 8 DVDD, 9 AVDDR, 10 AGNDR, 11 VMIDR, 12 VOUTRP, 13 VOUTRN, 14 AGND, 15 AVDD, 16 VOUTLN, 17 VOUTLP, 18 VMIDL, 19 AGNDL, 20 AVDDL, 21 ZERO, 22 RSTB, 23 CSBIWO, 24 MODE, 25 MUTEB, 26 MD/DM0, 27 MC/DM1, 28 ML/I2S

## IND
designator L?
CLASS: DISCRETE
pins: 1, 2

## LED,LTST-C195KGJRKT,Dual LED_0
designator D?, comment Dual LED
LED,LTST-C195KGJRKT,Dual color LED; Vendor: LITE-ON; VPN: LTST-C195KGJRKT
footprint D2LED
pins: 1, 2, 3, 4
text: G; R

## MAX811_0
designator U?
CLASS: IC
pins: 1 GND (power), 2 ~{RESET} (out), 4 VCC

## MAX811_1
designator U?
CLASS: IC
pins: 1 GND (power), 2 ~{RESET} (out), 3 VCC

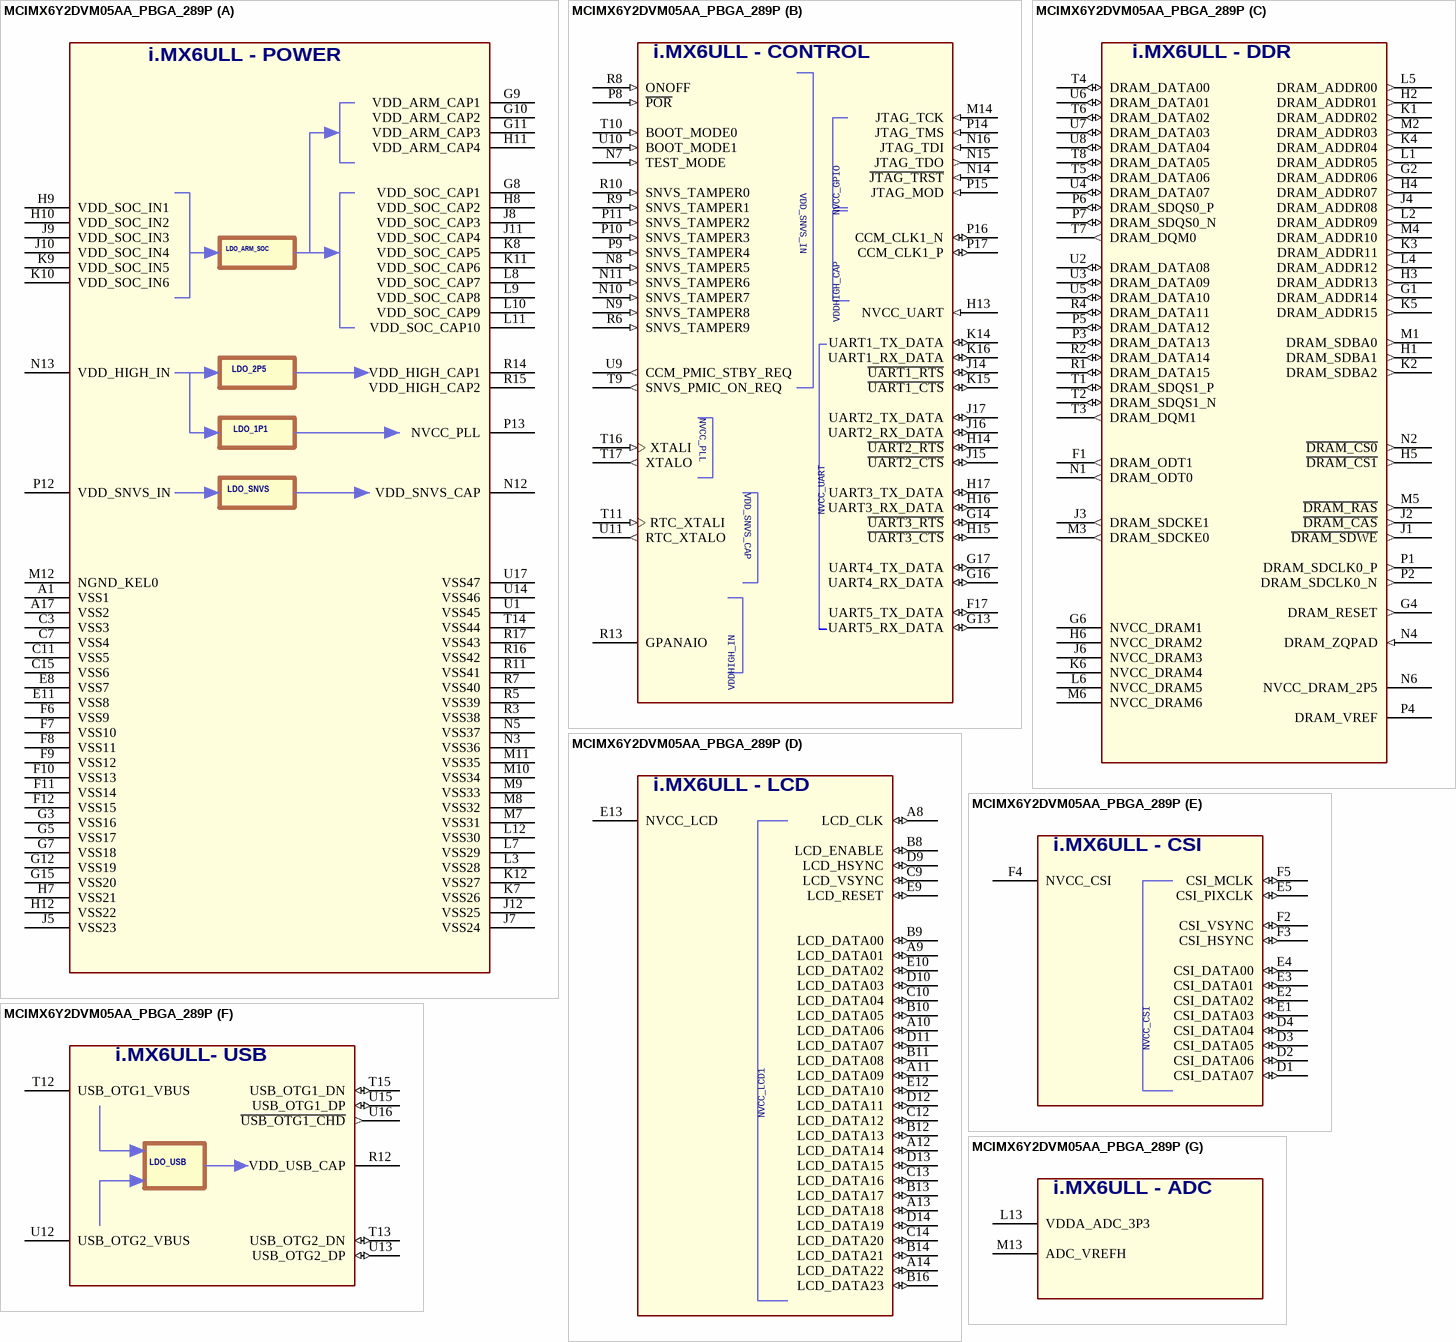
[diagram p6: symbol MCIMX6Y2DVM05AA_PBGA_289P]

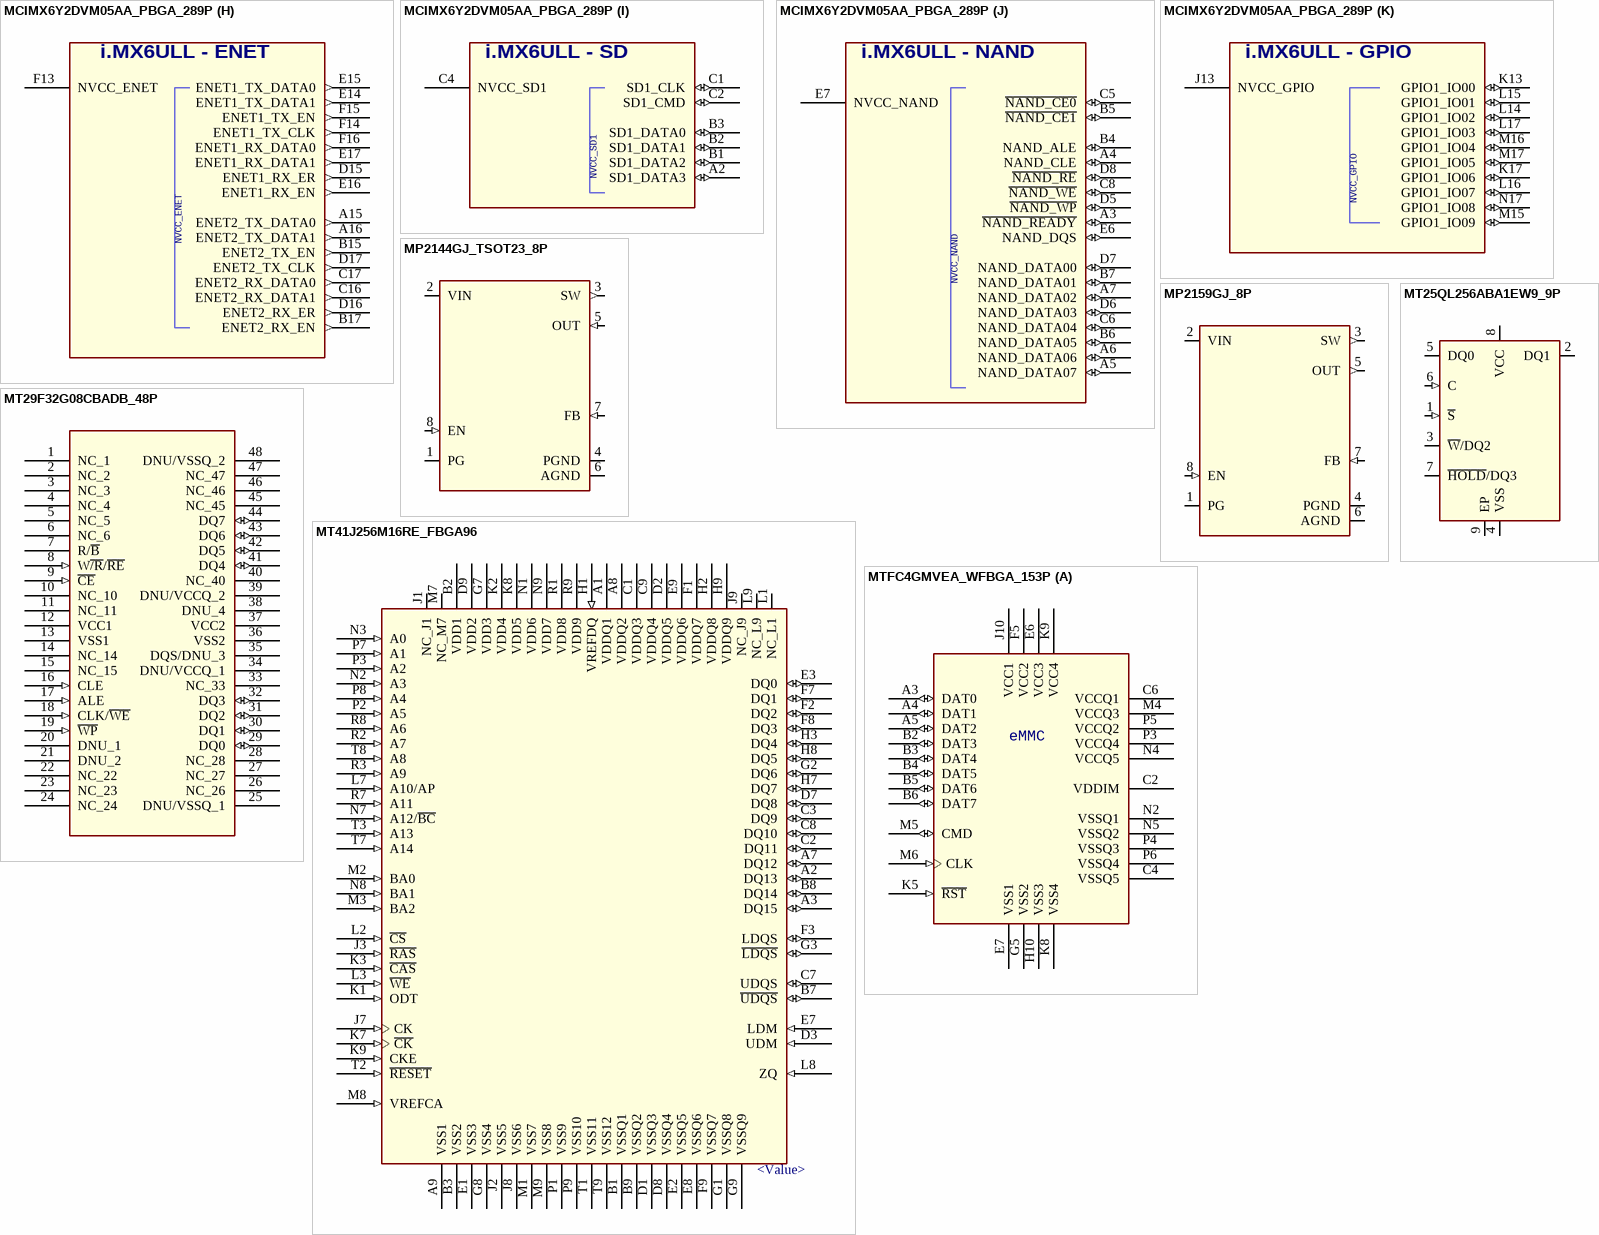
[diagram p7: symbols MCIMX6Y2DVM05AA_PBGA_289P to MTFC4GMVEA_WFBGA_153P]

## MCIMX6Y2DVM05AA_PBGA_289P
designator U?
CLASS: IC
footprint NXP_98ASA00855D_0
part A pins: A1 VSS1 (power), A17 VSS2 (power), C3 VSS3 (power), C7 VSS4 (power), C11 VSS5 (power), C15 VSS6 (power), E8 VSS7 (power), E11 VSS8 (power), F6 VSS9 (power), F7 VSS10 (power), F8 VSS11 (power), F9 VSS12 (power), F10 VSS13 (power), F11 VSS14 (power), F12 VSS15 (power), G3 VSS16 (power), G5 VSS17 (power), G7 VSS18 (power), G8 VDD_SOC_CAP1 (power), G9 VDD_ARM_CAP1 (power), G10 VDD_ARM_CAP2 (power), G11 VDD_ARM_CAP3 (power), G12 VSS19 (power), G15 VSS20 (power), H7 VSS21 (power), H8 VDD_SOC_CAP2 (power), H9 VDD_SOC_IN1 (power), H10 VDD_SOC_IN2 (power), H11 VDD_ARM_CAP4 (power), H12 VSS22 (power), J5 VSS23 (power), J7 VSS24 (power), J8 VDD_SOC_CAP3 (power), J9 VDD_SOC_IN3 (power), J10 VDD_SOC_IN4 (power), J11 VDD_SOC_CAP4 (power), J12 VSS25 (power), K7 VSS26 (power), K8 VDD_SOC_CAP5 (power), K9 VDD_SOC_IN5 (power), K10 VDD_SOC_IN6 (power), K11 VDD_SOC_CAP6 (power), K12 VSS27 (power), L3 VSS28 (power), L7 VSS29 (power), L8 VDD_SOC_CAP7 (power), L9 VDD_SOC_CAP8 (power), L10 VDD_SOC_CAP9 (power), L11 VDD_SOC_CAP10 (power), L12 VSS30 (power), M7 VSS31 (power), M8 VSS32 (power), M9 VSS33 (power), M10 VSS34 (power), M11 VSS35 (power), M12 NGND_KEL0 (power), N3 VSS36 (power), N5 VSS37 (power), N12 VDD_SNVS_CAP (power), N13 VDD_HIGH_IN (power), P12 VDD_SNVS_IN (power), P13 NVCC_PLL (power), R3 VSS38 (power), R5 VSS39 (power), R7 VSS40 (power), R11 VSS41 (power), R14 VDD_HIGH_CAP1 (power), R15 VDD_HIGH_CAP2 (power), R16 VSS42 (power), R17 VSS43 (power), T14 VSS44 (power), U1 VSS45 (power), U14 VSS46 (power), U17 VSS47 (power)
part B pins: F17 UART5_TX_DATA (io), G13 UART5_RX_DATA (io), G14 ~{UART3_RTS} (io), G16 UART4_RX_DATA (io), G17 UART4_TX_DATA (io), H13 NVCC_UART (in), H14 ~{UART2_RTS} (io), H15 ~{UART3_CTS} (io), H16 UART3_RX_DATA (io), H17 UART3_TX_DATA (io), J14 ~{UART1_RTS} (io), J15 ~{UART2_CTS} (io), J16 UART2_RX_DATA (io), J17 UART2_TX_DATA (io), K14 UART1_TX_DATA (io), K15 ~{UART1_CTS} (io), K16 UART1_RX_DATA (io), M14 JTAG_TCK (in), N7 TEST_MODE (in), N8 SNVS_TAMPER5 (in), N9 SNVS_TAMPER8 (in), N10 SNVS_TAMPER7 (in), N11 SNVS_TAMPER6 (in), N14 ~{JTAG_TRST} (in), N15 JTAG_TDO (out), N16 JTAG_TDI (in), P8 ~{POR} (in), P9 SNVS_TAMPER4 (in), P10 SNVS_TAMPER3 (in), P11 SNVS_TAMPER2 (in), P14 JTAG_TMS (in), P15 JTAG_MOD (in), P16 CCM_CLK1_N (io), P17 CCM_CLK1_P (io), R6 SNVS_TAMPER9 (in), R8 ONOFF (in), R9 SNVS_TAMPER1 (in), R10 SNVS_TAMPER0 (in), R13 GPANAIO (power), T9 SNVS_PMIC_ON_REQ (out), T10 BOOT_MODE0 (in), T11 RTC_XTALI (in), T16 XTALI (in), T17 XTALO (out), U9 CCM_PMIC_STBY_REQ (out), U10 BOOT_MODE1 (in), U11 RTC_XTALO (out)
part C pins: F1 DRAM_ODT1 (out), G1 DRAM_ADDR14 (out), G2 DRAM_ADDR06 (out), G4 DRAM_RESET (out), G6 NVCC_DRAM1 (power), H1 DRAM_SDBA1 (out), H2 DRAM_ADDR01 (out), H3 DRAM_ADDR13 (out), H4 DRAM_ADDR07 (out), H5 ~{DRAM_CS1} (out), H6 NVCC_DRAM2 (power), J1 ~{DRAM_SDWE} (out), J2 ~{DRAM_CAS} (out), J3 DRAM_SDCKE1 (out), J4 DRAM_ADDR08 (out), J6 NVCC_DRAM3 (power), K1 DRAM_ADDR02 (out), K2 DRAM_SDBA2 (out), K3 DRAM_ADDR11 (out), K4 DRAM_ADDR04 (out), K5 DRAM_ADDR15 (out), K6 NVCC_DRAM4 (power), L1 DRAM_ADDR05 (out), L2 DRAM_ADDR09 (out), L4 DRAM_ADDR12 (out), L5 DRAM_ADDR00 (out), L6 NVCC_DRAM5 (power), M1 DRAM_SDBA0 (out), M2 DRAM_ADDR03 (out), M3 DRAM_SDCKE0 (out), M4 DRAM_ADDR10 (out), M5 ~{DRAM_RAS} (out), M6 NVCC_DRAM6 (power), N1 DRAM_ODT0 (out), N2 ~{DRAM_CS0} (out), N4 DRAM_ZQPAD (in), N6 NVCC_DRAM_2P5 (power), P1 DRAM_SDCLK0_P (out), P2 DRAM_SDCLK0_N (out), P3 DRAM_DATA13 (io), P4 DRAM_VREF (power), P5 DRAM_DATA12 (io), P6 DRAM_SDQS0_P (io), P7 DRAM_SDQS0_N (io), R1 DRAM_DATA15 (io), R2 DRAM_DATA14 (io), R4 DRAM_DATA11 (io), T1 DRAM_SDQS1_P (io), T2 DRAM_SDQS1_N (io), T3 DRAM_DQM1 (out), T4 DRAM_DATA00 (io), T5 DRAM_DATA06 (io), T6 DRAM_DATA02 (io), T7 DRAM_DQM0 (out), T8 DRAM_DATA05 (io), U2 DRAM_DATA08 (io), U3 DRAM_DATA09 (io), U4 DRAM_DATA07 (io), U5 DRAM_DATA10 (io), U6 DRAM_DATA01 (io), U7 DRAM_DATA03 (io), U8 DRAM_DATA04 (io)
part D pins: A8 LCD_CLK (io), A9 LCD_DATA01 (io), A10 LCD_DATA06 (io), A11 LCD_DATA09 (io), A12 LCD_DATA14 (io), A13 LCD_DATA18 (io), A14 LCD_DATA22 (io), B8 LCD_ENABLE (io), B9 LCD_DATA00 (io), B10 LCD_DATA05 (io), B11 LCD_DATA08 (io), B12 LCD_DATA13 (io), B13 LCD_DATA17 (io), B14 LCD_DATA21 (io), B16 LCD_DATA23 (io), C9 LCD_VSYNC (io), C10 LCD_DATA04 (io), C12 LCD_DATA12 (io), C13 LCD_DATA16 (io), C14 LCD_DATA20 (io), D9 LCD_HSYNC (io), D10 LCD_DATA03 (io), D11 LCD_DATA07 (io), D12 LCD_DATA11 (io), D13 LCD_DATA15 (io), D14 LCD_DATA19 (io), E9 LCD_RESET (io), E10 LCD_DATA02 (io), E12 LCD_DATA10 (io), E13 NVCC_LCD (power)
part E pins: D1 CSI_DATA07 (io), D2 CSI_DATA06 (io), D3 CSI_DATA05 (io), D4 CSI_DATA04 (io), E1 CSI_DATA03 (io), E2 CSI_DATA02 (io), E3 CSI_DATA01 (io), E4 CSI_DATA00 (io), E5 CSI_PIXCLK (io), F2 CSI_VSYNC (io), F3 CSI_HSYNC (io), F4 NVCC_CSI (power), F5 CSI_MCLK (io)
part F pins: R12 VDD_USB_CAP (power), T12 USB_OTG1_VBUS (power), T13 USB_OTG2_DN (io), T15 USB_OTG1_DN (io), U12 USB_OTG2_VBUS (power), U13 USB_OTG2_DP (io), U15 USB_OTG1_DP (io), U16 ~{USB_OTG1_CHD} (out)
part G pins: L13 VDDA_ADC_3P3 (power), M13 ADC_VREFH (power)
part H pins: A15 ENET2_TX_DATA0 (out), A16 ENET2_TX_DATA1 (out), B15 ENET2_TX_EN (out), B17 ENET2_RX_EN (out), C16 ENET2_RX_DATA1 (out), C17 ENET2_RX_DATA0 (out), D15 ENET1_RX_ER (out), D16 ENET2_RX_ER (out), D17 ENET2_TX_CLK (out), E14 ENET1_TX_DATA1 (out), E15 ENET1_TX_DATA0 (out), E16 ENET1_RX_EN (out), E17 ENET1_RX_DATA1 (out), F13 NVCC_ENET (power), F14 ENET1_TX_CLK (out), F15 ENET1_TX_EN (out), F16 ENET1_RX_DATA0 (out)
part I pins: A2 SD1_DATA3 (io), B1 SD1_DATA2 (io), B2 SD1_DATA1 (io), B3 SD1_DATA0 (io), C1 SD1_CLK (io), C2 SD1_CMD (io), C4 NVCC_SD1 (power)
part J pins: A3 ~{NAND_READY} (io), A4 NAND_CLE (io), A5 NAND_DATA07 (io), A6 NAND_DATA06 (io), A7 NAND_DATA02 (io), B4 NAND_ALE (io), B5 ~{NAND_CE1} (io), B6 NAND_DATA05 (io), B7 NAND_DATA01 (io), C5 ~{NAND_CE0} (io), C6 NAND_DATA04 (io), C8 ~{NAND_WE} (io), D5 ~{NAND_WP} (io), D6 NAND_DATA03 (io), D7 NAND_DATA00 (io), D8 ~{NAND_RE} (io), E6 NAND_DQS (io), E7 NVCC_NAND (power)
part K pins: J13 NVCC_GPIO (power), K13 GPIO1_IO00 (io), K17 GPIO1_IO06 (io), L14 GPIO1_IO02 (io), L15 GPIO1_IO01 (io), L16 GPIO1_IO07 (io), L17 GPIO1_IO03 (io), M15 GPIO1_IO09 (io), M16 GPIO1_IO04 (io), M17 GPIO1_IO05 (io), N17 GPIO1_IO08 (io)
part A text: i.MX6ULL - POWER; LDO_ARM_SOC; LDO_2P5; LDO_1P1; LDO_SNVS
part B text: i.MX6ULL - CONTROL; VDDHIGH_CAP; VDDHIGH_IN
part C text: i.MX6ULL - DDR
part D text: i.MX6ULL - LCD; NVCC_LCD1
part E text: i.MX6ULL - CSI
part F text: i.MX6ULL- USB; LDO_USB
part G text: i.MX6ULL - ADC
part H text: i.MX6ULL - ENET
part I text: i.MX6ULL - SD
part J text: i.MX6ULL - NAND
part K text: i.MX6ULL - GPIO

## MP2144GJ_TSOT23_8P
designator U?
CLASS: IC
pins: 1 PG (oc), 2 VIN (power), 3 SW (out), 4 PGND (power), 5 OUT (in), 6 AGND (power), 7 FB (in), 8 EN (in)

## MP2159GJ_8P
designator U?
CLASS: IC
footprint qfn12_2x2mm
pins: 1 PG (oc), 2 VIN (power), 3 SW (out), 4 PGND (power), 5 OUT (out), 6 AGND (power), 7 FB (in), 8 EN (in)

## MT25QL256ABA1EW9_9P
designator U?
CLASS: IC
pins: 1 ~{S} (in), 2 DQ1 (io), 3 ~{W}/DQ2 (io), 4 VSS (power), 5 DQ0 (io), 6 C (in), 7 ~{HOLD}/DQ3 (io), 8 VCC (power), 9 EP (power)

## MT29F32G08CBADB_48P
designator U?
CLASS: IC
footprint TSOP48
pins: 1 NC_1, 2 NC_2, 3 NC_3, 4 NC_4, 5 NC_5, 6 NC_6, 7 R/~{B} (oc), 8 W~{/R}/~{RE} (in), 9 ~{CE} (in), 10 NC_10, 11 NC_11, 12 VCC1 (power), 13 VSS1 (power), 14 NC_14, 15 NC_15, 16 CLE (in), 17 ALE (in), 18 CLK/~{WE} (in), 19 ~{WP} (in), 20 DNU_1, 21 DNU_2, 22 NC_22, 23 NC_23, 24 NC_24, 25 DNU/VSSQ_1 (power), 26 NC_26, 27 NC_27, 28 NC_28, 29 DQ0 (io), 30 DQ1 (io), 31 DQ2 (io), 32 DQ3 (io), 33 NC_33, 34 DNU/VCCQ_1 (power), 35 DQS/DNU_3, 36 VSS2 (power), 37 VCC2 (power), 38 DNU_4, 39 DNU/VCCQ_2, 40 NC_40, 41 DQ4 (io), 42 DQ5 (io), 43 DQ6 (io), 44 DQ7 (io), 45 NC_45, 46 NC_46, 47 NC_47, 48 DNU/VSSQ_2 (power)

## MT41J256M16RE_FBGA96
designator U?, comment <Value>
CLASS: IC
footprint Micron_TW_IPC_C
pins: A1 VDDQ1 (power), A2 DQ13 (io), A3 DQ15 (io), A7 DQ12 (io), A8 VDDQ2 (power), A9 VSS1 (power), B1 VSSQ1 (power), B2 VDD1 (power), B3 VSS2 (power), B7 ~{UDQS} (io), B8 DQ14 (io), B9 VSSQ2 (power), C1 VDDQ3 (power), C2 DQ11 (io), C3 DQ9 (io), C7 UDQS (io), C8 DQ10 (io), C9 VDDQ4 (power), D1 VSSQ3 (power), D2 VDDQ5 (power), D3 UDM (in), D7 DQ8 (io), D8 VSSQ4 (power), D9 VDD2 (power), E1 VSS3 (power), E2 VSSQ5 (power), E3 DQ0 (io), E7 LDM (in), E8 VSSQ6 (power), E9 VDDQ6 (power), F1 VDDQ7 (power), F2 DQ2 (io), F3 LDQS (io), F7 DQ1 (io), F8 DQ3 (io), F9 VSSQ7 (power), G1 VSSQ8 (power), G2 DQ6 (io), G3 ~{LDQS} (io), G7 VDD3 (power), G8 VSS4 (power), G9 VSSQ9 (power), H1 VREFDQ (in), H2 VDDQ8 (power), H3 DQ4 (io), H7 DQ7 (io), H8 DQ5 (io), H9 VDDQ9 (power), J1 NC_J1, J2 VSS5 (power), J3 ~{RAS} (in), J7 CK (in), J8 VSS6 (power), J9 NC_J9, K1 ODT (in), K2 VDD4 (power), K3 ~{CAS} (in), K7 ~{CK} (in), K8 VDD5 (power), K9 CKE (in), L1 NC_L1, L2 ~{CS} (in), L3 ~{WE} (in), L7 A10/AP (in), L8 ZQ (in), L9 NC_L9, M1 VSS7 (power), M2 BA0 (in), M3 BA2 (in), M7 NC_M7, M8 VREFCA (in), M9 VSS8 (power), N1 VDD6 (power), N2 A3 (in), N3 A0 (in), N7 A12/~{BC} (in), N8 BA1 (in), N9 VDD7 (power), P1 VSS9 (power), P2 A5 (in), P3 A2 (in), P7 A1 (in), P8 A4 (in), P9 VSS10 (power), R1 VDD8 (power), R2 A7 (in), R3 A9 (in), R7 A11 (in), R8 A6 (in), R9 VDD9 (power), T1 VSS11 (power), T2 ~{RESET} (in), T3 A13 (in), T7 A14 (in), T8 A8 (in), T9 VSS12 (power)

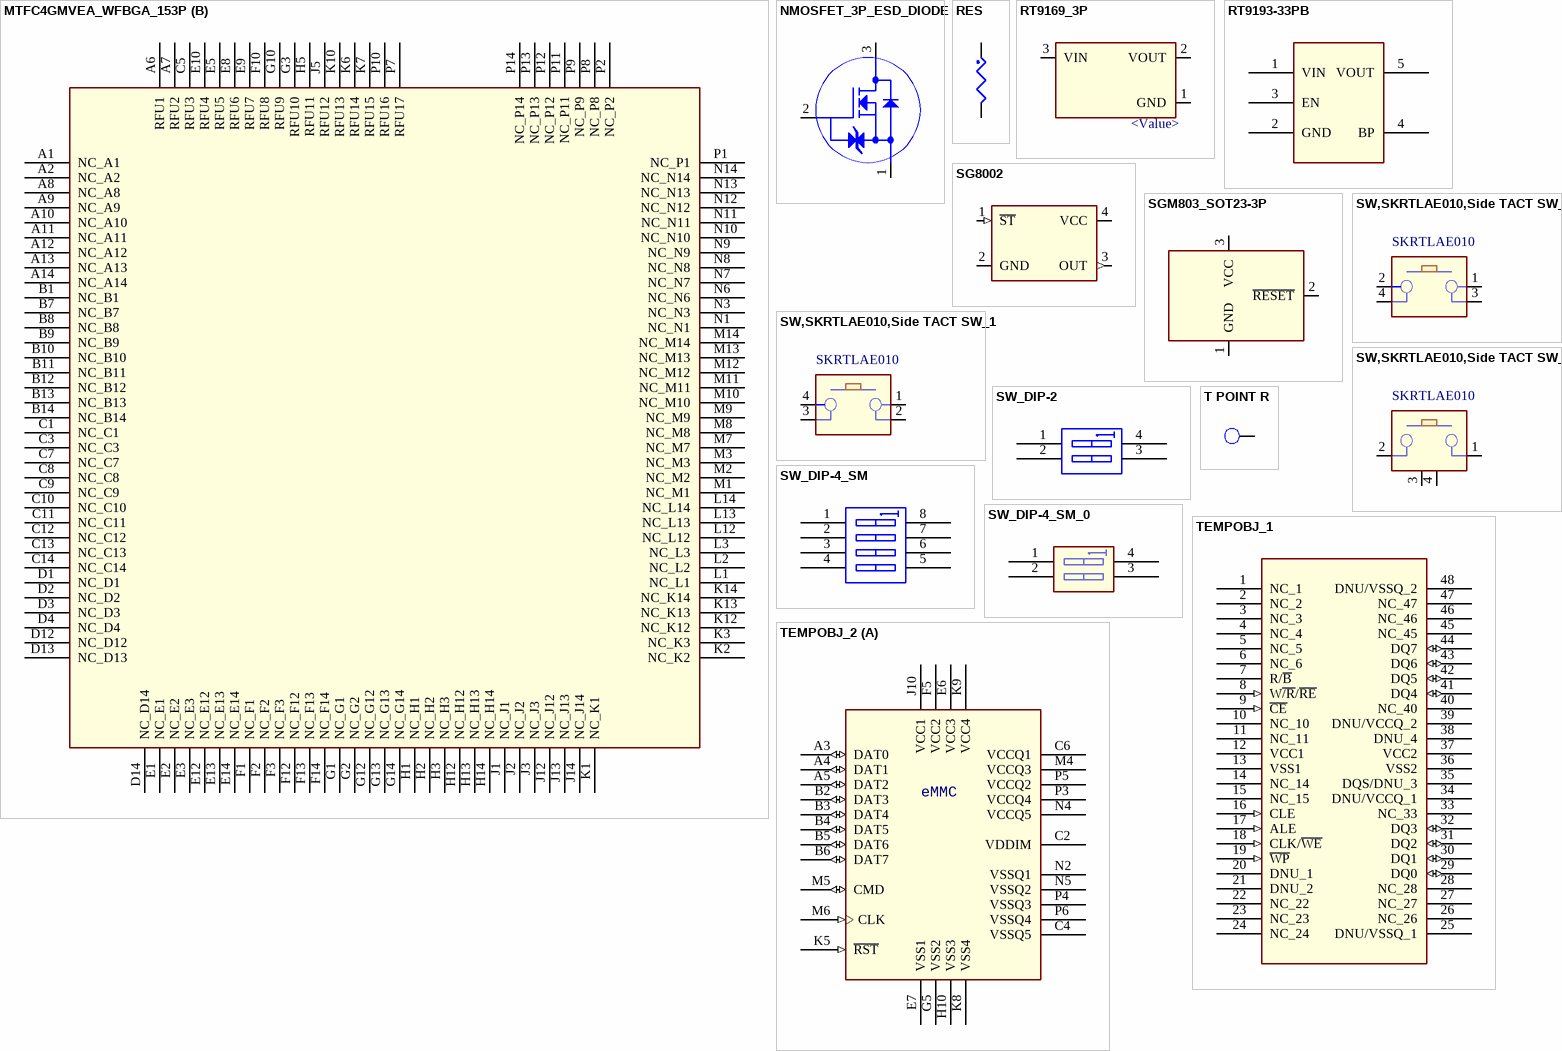
[diagram p8: symbols MTFC4GMVEA_WFBGA_153P to TEMPOBJ_2]

## MTFC4GMVEA_WFBGA_153P
designator U?
CLASS: IC
footprint WFBGA153
part A pins: A3 DAT0 (io), A4 DAT1 (io), A5 DAT2 (io), B2 DAT3 (io), B3 DAT4 (io), B4 DAT5 (io), B5 DAT6 (io), B6 DAT7 (io), C2 VDDIM (power), C4 VSSQ5 (power), C6 VCCQ1 (power), E6 VCC3 (power), E7 VSS1 (power), F5 VCC2 (power), G5 VSS2 (power), H10 VSS3 (power), J10 VCC1 (power), K5 ~{RST} (in), K8 VSS4 (power), K9 VCC4 (power), M4 VCCQ3 (power), M5 CMD (io), M6 CLK (in), N2 VSSQ1 (power), N4 VCCQ5 (power), N5 VSSQ2 (power), P3 VCCQ4 (power), P4 VSSQ3 (power), P5 VCCQ2 (power), P6 VSSQ4 (power)
part B pins: A1 NC_A1, A2 NC_A2, A6 RFU1, A7 RFU2, A8 NC_A8, A9 NC_A9, A10 NC_A10, A11 NC_A11, A12 NC_A12, A13 NC_A13, A14 NC_A14, B1 NC_B1, B7 NC_B7, B8 NC_B8, B9 NC_B9, B10 NC_B10, B11 NC_B11, B12 NC_B12, B13 NC_B13, B14 NC_B14, C1 NC_C1, C3 NC_C3, C5 RFU3, C7 NC_C7, C8 NC_C8, C9 NC_C9, C10 NC_C10, C11 NC_C11, C12 NC_C12, C13 NC_C13, C14 NC_C14, D1 NC_D1, D2 NC_D2, D3 NC_D3, D4 NC_D4, D12 NC_D12, D13 NC_D13, D14 NC_D14, E1 NC_E1, E2 NC_E2, E3 NC_E3, E5 RFU5, E8 RFU6, E9 RFU7, E10 RFU4, E12 NC_E12, E13 NC_E13, E14 NC_E14, F1 NC_F1, F2 NC_F2, F3 NC_F3, F10 RFU8, F12 NC_F12, F13 NC_F13, F14 NC_F14, G1 NC_G1, G2 NC_G2, G3 RFU10, G10 RFU9, G12 NC_G12, G13 NC_G13, G14 NC_G14, H1 NC_H1, H2 NC_H2, H3 NC_H3, H5 RFU11, H12 NC_H12, H13 NC_H13, H14 NC_H14, J1 NC_J1, J2 NC_J2, J3 NC_J3, J5 RFU12, J12 NC_J12, J13 NC_J13, J14 NC_J14, K1 NC_K1, K2 NC_K2, K3 NC_K3, K6 RFU14, K7 RFU15, K10 RFU13, K12 NC_K12, K13 NC_K13, K14 NC_K14, L1 NC_L1, L2 NC_L2, L3 NC_L3, L12 NC_L12, L13 NC_L13, L14 NC_L14, M1 NC_M1, M2 NC_M2, M3 NC_M3, M7 NC_M7, M8 NC_M8, M9 NC_M9, M10 NC_M10, M11 NC_M11, M12 NC_M12, M13 NC_M13, M14 NC_M14, N1 NC_N1, N3 NC_N3, N6 NC_N6, N7 NC_N7, N8 NC_N8, N9 NC_N9, N10 NC_N10, N11 NC_N11, N12 NC_N12, N13 NC_N13, N14 NC_N14, P1 NC_P1, P2 NC_P2, P7 RFU17, P8 NC_P8, P9 NC_P9, P10 RFU16, P11 NC_P11, P12 NC_P12, P13 NC_P13, P14 NC_P14
part A text: eMMC

## NMOSFET_3P_ESD_DIODE
designator Q?
CLASS: IC
pins: 1 SOURCE, 2 GATE, 3 DRAIN

## RES
designator R?
CLASS: DISCRETE
pins: 1, 2

## RT9169_3P
designator U?, comment <Value>
CLASS: IC
footprint SOT223
pins: 1 GND (power), 2 VOUT (power), 3 VIN (power)

## RT9193-33PB
designator U?
CLASS: IC
pins: 1 VIN, 2 GND, 3 EN, 4 BP, 5 VOUT

## SG8002
designator Y?
CLASS: IC
pins: 1 ~{ST} (in), 2 GND (power), 3 OUT (out), 4 VCC (power)

## SGM803_SOT23-3P
designator U?
CLASS: IC
pins: 1 GND (power), 2 ~{RESET} (oc), 3 VCC (power)

## SW,SKRTLAE010,Side TACT SW_0
designator SW?, comment SKRTLAE010
SW,SKRTLAE010,ALPS Side tactile Swith; Vendor: ALPS; VPN: SKRTLAE010
footprint SKRTLAE010
pins: 1 OUT1, 2 IN1, 3 OUT2, 4 GND1

## SW,SKRTLAE010,Side TACT SW_1
designator SW?, comment SKRTLAE010
SW,SKRTLAE010,ALPS Side tactile Swith; Vendor: ALPS; VPN: SKRTLAE010
footprint SKRTLAE010
pins: 1 OUT1, 2 IN1, 3 OUT2, 4 GND1

## SW,SKRTLAE010,Side TACT SW_2
designator SW?, comment SKRTLAE010
SW,SKRTLAE010,ALPS Side tactile Swith; VPN: SKRTLAE010; Vendor: ALPS
footprint SKRTLAE010
pins: 1 OUT1, 2 IN1, 3 OUT2, 4 GND1

## SW_DIP-2
designator S?
CLASS: IC
pins: 1 A1, 2 A2, 3 B2, 4 B1

## SW_DIP-4_SM
designator SW?
CLASS: IC
pins: 1 A1, 2 A2, 3 A3, 4 A4, 5 B4, 6 B3, 7 B2, 8 B1

## SW_DIP-4_SM_0
designator SW?
CLASS: IC
pins: 1 A1, 2 A2, 3 A3, 4 A4

## T POINT R
designator TP?  (value not drawn)
CLASS: IC
pins: 1 TP

## TEMPOBJ_1
designator U?
CLASS: IC
footprint TSOP48
pins: 1 NC_1, 2 NC_2, 3 NC_3, 4 NC_4, 5 NC_5, 6 NC_6, 7 R/~{B} (oc), 8 W~{/R}/~{RE} (in), 9 ~{CE} (in), 10 NC_10, 11 NC_11, 12 VCC1 (power), 13 VSS1 (power), 14 NC_14, 15 NC_15, 16 CLE (in), 17 ALE (in), 18 CLK/~{WE} (in), 19 ~{WP} (in), 20 DNU_1, 21 DNU_2, 22 NC_22, 23 NC_23, 24 NC_24, 25 DNU/VSSQ_1 (power), 26 NC_26, 27 NC_27, 28 NC_28, 29 DQ0 (io), 30 DQ1 (io), 31 DQ2 (io), 32 DQ3 (io), 33 NC_33, 34 DNU/VCCQ_1 (power), 35 DQS/DNU_3, 36 VSS2 (power), 37 VCC2 (power), 38 DNU_4, 39 DNU/VCCQ_2, 40 NC_40, 41 DQ4 (io), 42 DQ5 (io), 43 DQ6 (io), 44 DQ7 (io), 45 NC_45, 46 NC_46, 47 NC_47, 48 DNU/VSSQ_2 (power)

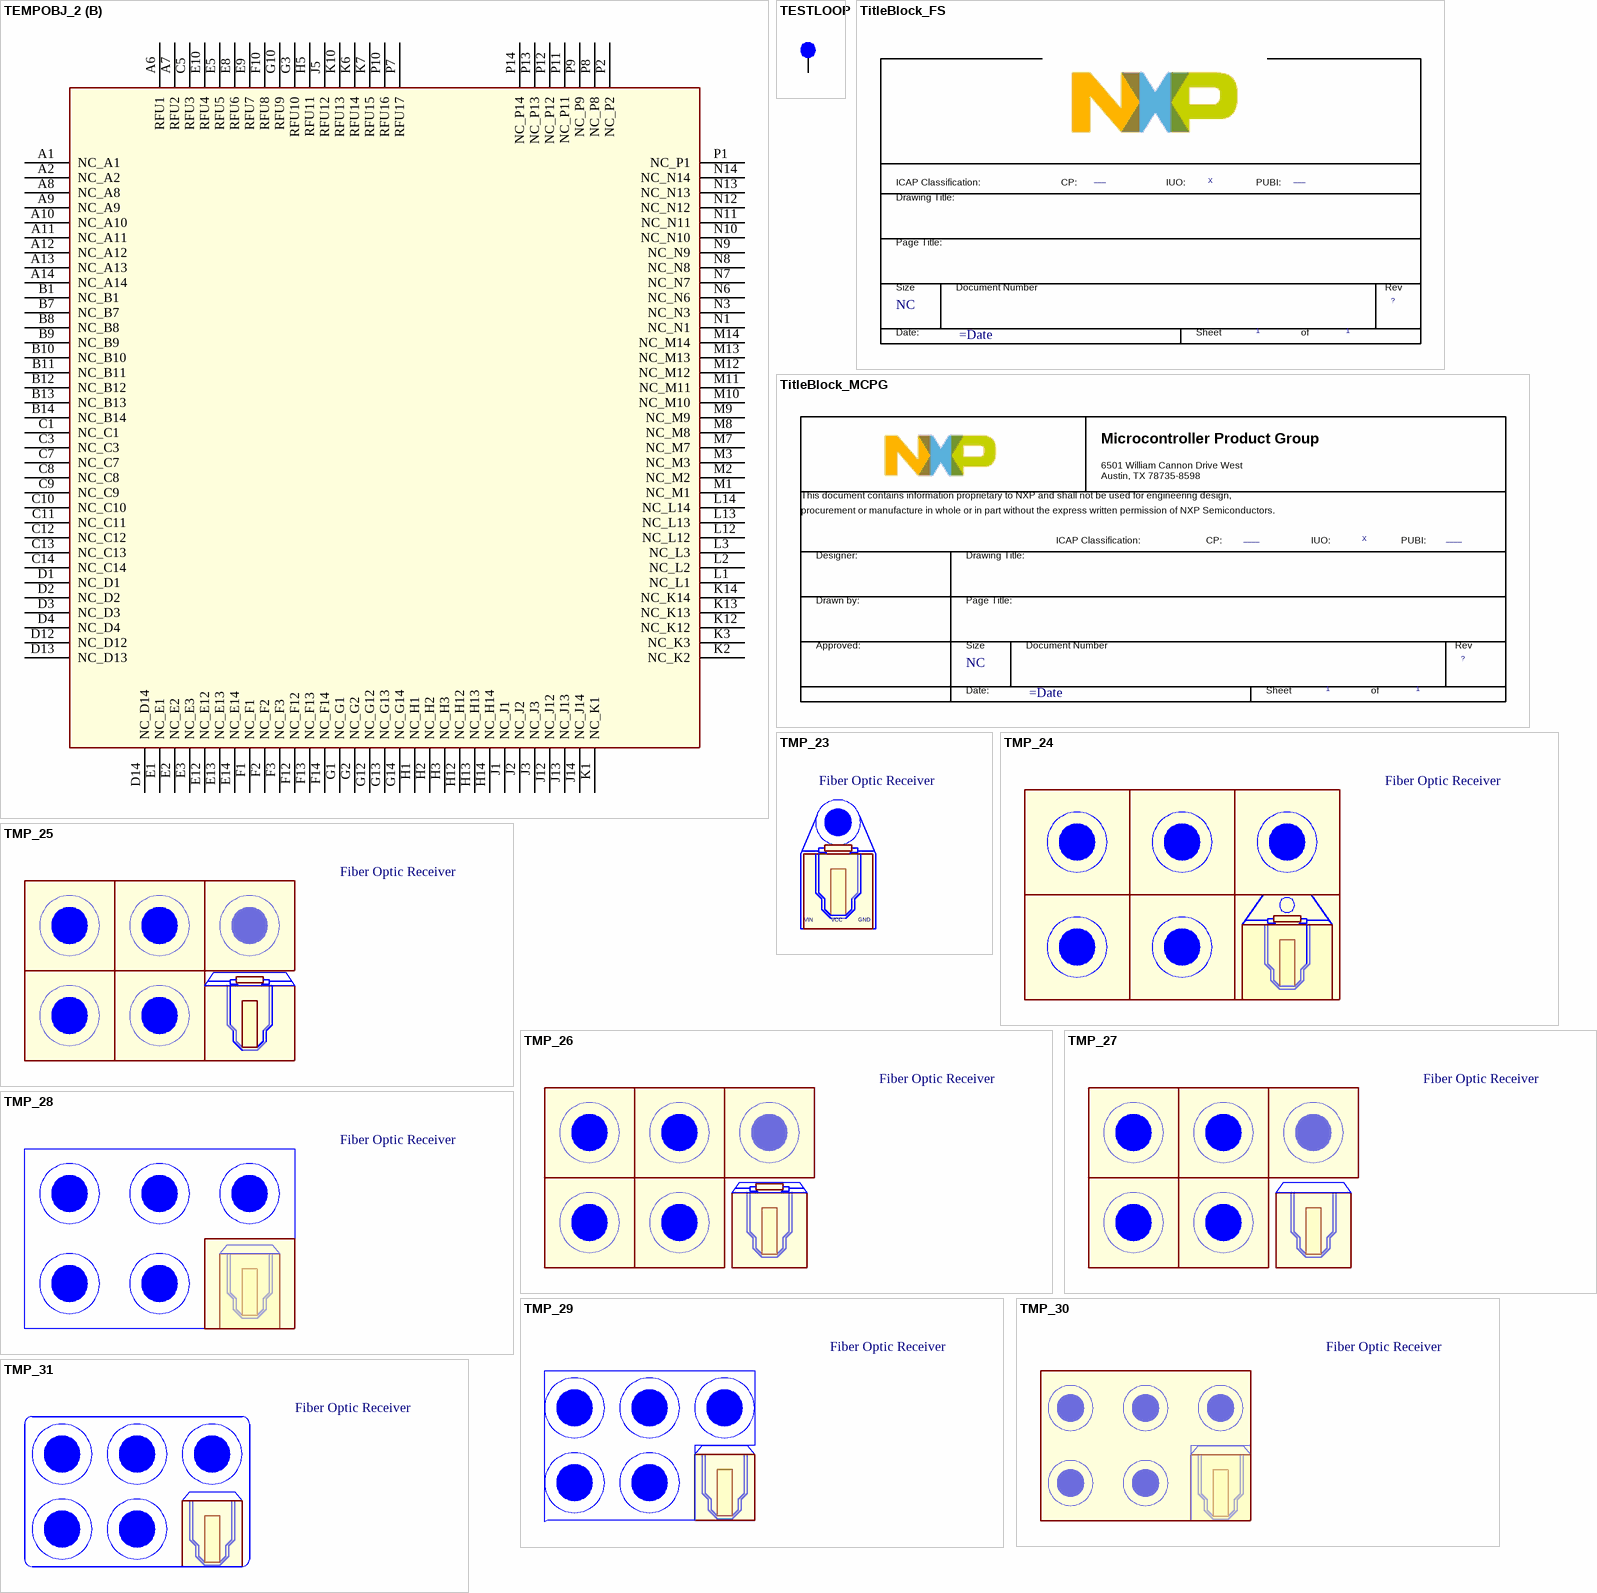
[diagram p9: symbols TEMPOBJ_2 to TMP_31]

## TEMPOBJ_2
designator U?
CLASS: IC
footprint WFBGA153
part A pins: A3 DAT0 (io), A4 DAT1 (io), A5 DAT2 (io), B2 DAT3 (io), B3 DAT4 (io), B4 DAT5 (io), B5 DAT6 (io), B6 DAT7 (io), C2 VDDIM (power), C4 VSSQ5 (power), C6 VCCQ1 (power), E6 VCC3 (power), E7 VSS1 (power), F5 VCC2 (power), G5 VSS2 (power), H10 VSS3 (power), J10 VCC1 (power), K5 ~{RST} (in), K8 VSS4 (power), K9 VCC4 (power), M4 VCCQ3 (power), M5 CMD (io), M6 CLK (in), N2 VSSQ1 (power), N4 VCCQ5 (power), N5 VSSQ2 (power), P3 VCCQ4 (power), P4 VSSQ3 (power), P5 VCCQ2 (power), P6 VSSQ4 (power)
part B pins: A1 NC_A1, A2 NC_A2, A6 RFU1, A7 RFU2, A8 NC_A8, A9 NC_A9, A10 NC_A10, A11 NC_A11, A12 NC_A12, A13 NC_A13, A14 NC_A14, B1 NC_B1, B7 NC_B7, B8 NC_B8, B9 NC_B9, B10 NC_B10, B11 NC_B11, B12 NC_B12, B13 NC_B13, B14 NC_B14, C1 NC_C1, C3 NC_C3, C5 RFU3, C7 NC_C7, C8 NC_C8, C9 NC_C9, C10 NC_C10, C11 NC_C11, C12 NC_C12, C13 NC_C13, C14 NC_C14, D1 NC_D1, D2 NC_D2, D3 NC_D3, D4 NC_D4, D12 NC_D12, D13 NC_D13, D14 NC_D14, E1 NC_E1, E2 NC_E2, E3 NC_E3, E5 RFU5, E8 RFU6, E9 RFU7, E10 RFU4, E12 NC_E12, E13 NC_E13, E14 NC_E14, F1 NC_F1, F2 NC_F2, F3 NC_F3, F10 RFU8, F12 NC_F12, F13 NC_F13, F14 NC_F14, G1 NC_G1, G2 NC_G2, G3 RFU10, G10 RFU9, G12 NC_G12, G13 NC_G13, G14 NC_G14, H1 NC_H1, H2 NC_H2, H3 NC_H3, H5 RFU11, H12 NC_H12, H13 NC_H13, H14 NC_H14, J1 NC_J1, J2 NC_J2, J3 NC_J3, J5 RFU12, J12 NC_J12, J13 NC_J13, J14 NC_J14, K1 NC_K1, K2 NC_K2, K3 NC_K3, K6 RFU14, K7 RFU15, K10 RFU13, K12 NC_K12, K13 NC_K13, K14 NC_K14, L1 NC_L1, L2 NC_L2, L3 NC_L3, L12 NC_L12, L13 NC_L13, L14 NC_L14, M1 NC_M1, M2 NC_M2, M3 NC_M3, M7 NC_M7, M8 NC_M8, M9 NC_M9, M10 NC_M10, M11 NC_M11, M12 NC_M12, M13 NC_M13, M14 NC_M14, N1 NC_N1, N3 NC_N3, N6 NC_N6, N7 NC_N7, N8 NC_N8, N9 NC_N9, N10 NC_N10, N11 NC_N11, N12 NC_N12, N13 NC_N13, N14 NC_N14, P1 NC_P1, P2 NC_P2, P7 RFU17, P8 NC_P8, P9 NC_P9, P10 RFU16, P11 NC_P11, P12 NC_P12, P13 NC_P13, P14 NC_P14
part A text: eMMC

## TESTLOOP
designator TP?  (value not drawn)
CLASS: IO
pins: 1 Pin1

## TitleBlock_FS
designator *  FIUO: X  PUBI: ___  Page Size: NC  Page Number: 1  (hidden comment: *)  (graphical)
FCP: ___; Page Create Date: March  8, 1995; RevCode: ?; Page Count: 1; Page Modify Date: =Date
text: ICAP Classification:; CP:; IUO:; PUBI:; Drawing Title:; Page Title:; Size; Document Number; Rev; Date:; Sheet; of

## TitleBlock_MCPG
designator *  Page Size: NC  Page Number: 1  PUBI: ____  FIUO: X  (hidden comment: *)  (graphical)
Page Create Date: March  8, 1995; RevCode: ?; Page Count: 1; FCP: ____; Page Modify Date: =Date
text: Microcontroller Product Group; 6501 William Cannon Drive West / Austin, TX 78735-8598; This document contains information proprietary to NXP and shall not be used for engineering design,; procurement or manufacture in whole or in part without the express written permission of NXP Semiconductors.; ICAP Classification:; CP:; IUO:; PUBI:; Designer:; Drawing Title:; Drawn by:; Page Title:; Approved:; Size; Document Number; Rev; Date:; Sheet; of

## TMP_23
designator J?, comment Fiber Optic Receiver
CN,GP1FAV31RK0F,Fiber Optic Receiver Square connector; Vendor: SHARP; VPN: GP1FAV31RK0F
footprint FIBER-GP1FAV31RK0F
text: VIN; VCC; GND

## TMP_24
designator J?, comment Fiber Optic Receiver
CN,GP1FAV31RK0F,Fiber Optic Receiver Square connector; Vendor: SHARP; VPN: GP1FAV31RK0F
footprint FIBER-GP1FAV31RK0F

## TMP_25
designator J?, comment Fiber Optic Receiver
CN,GP1FAV31RK0F,Fiber Optic Receiver Square connector; Vendor: SHARP; VPN: GP1FAV31RK0F
footprint FIBER-GP1FAV31RK0F

## TMP_26
designator J?, comment Fiber Optic Receiver
CN,GP1FAV31RK0F,Fiber Optic Receiver Square connector; Vendor: SHARP; VPN: GP1FAV31RK0F
footprint FIBER-GP1FAV31RK0F

## TMP_27
designator J?, comment Fiber Optic Receiver
CN,GP1FAV31RK0F,Fiber Optic Receiver Square connector; Vendor: SHARP; VPN: GP1FAV31RK0F
footprint FIBER-GP1FAV31RK0F

## TMP_28
designator J?, comment Fiber Optic Receiver
CN,GP1FAV31RK0F,Fiber Optic Receiver Square connector; Vendor: SHARP; VPN: GP1FAV31RK0F
footprint FIBER-GP1FAV31RK0F

## TMP_29
designator J?, comment Fiber Optic Receiver
CN,GP1FAV31RK0F,Fiber Optic Receiver Square connector; Vendor: SHARP; VPN: GP1FAV31RK0F
footprint FIBER-GP1FAV31RK0F

## TMP_30
designator J?, comment Fiber Optic Receiver
CN,GP1FAV31RK0F,Fiber Optic Receiver Square connector; Vendor: SHARP; VPN: GP1FAV31RK0F
footprint FIBER-GP1FAV31RK0F

## TMP_31
designator J?, comment Fiber Optic Receiver
CN,GP1FAV31RK0F,Fiber Optic Receiver Square connector; Vendor: SHARP; VPN: GP1FAV31RK0F
footprint FIBER-GP1FAV31RK0F

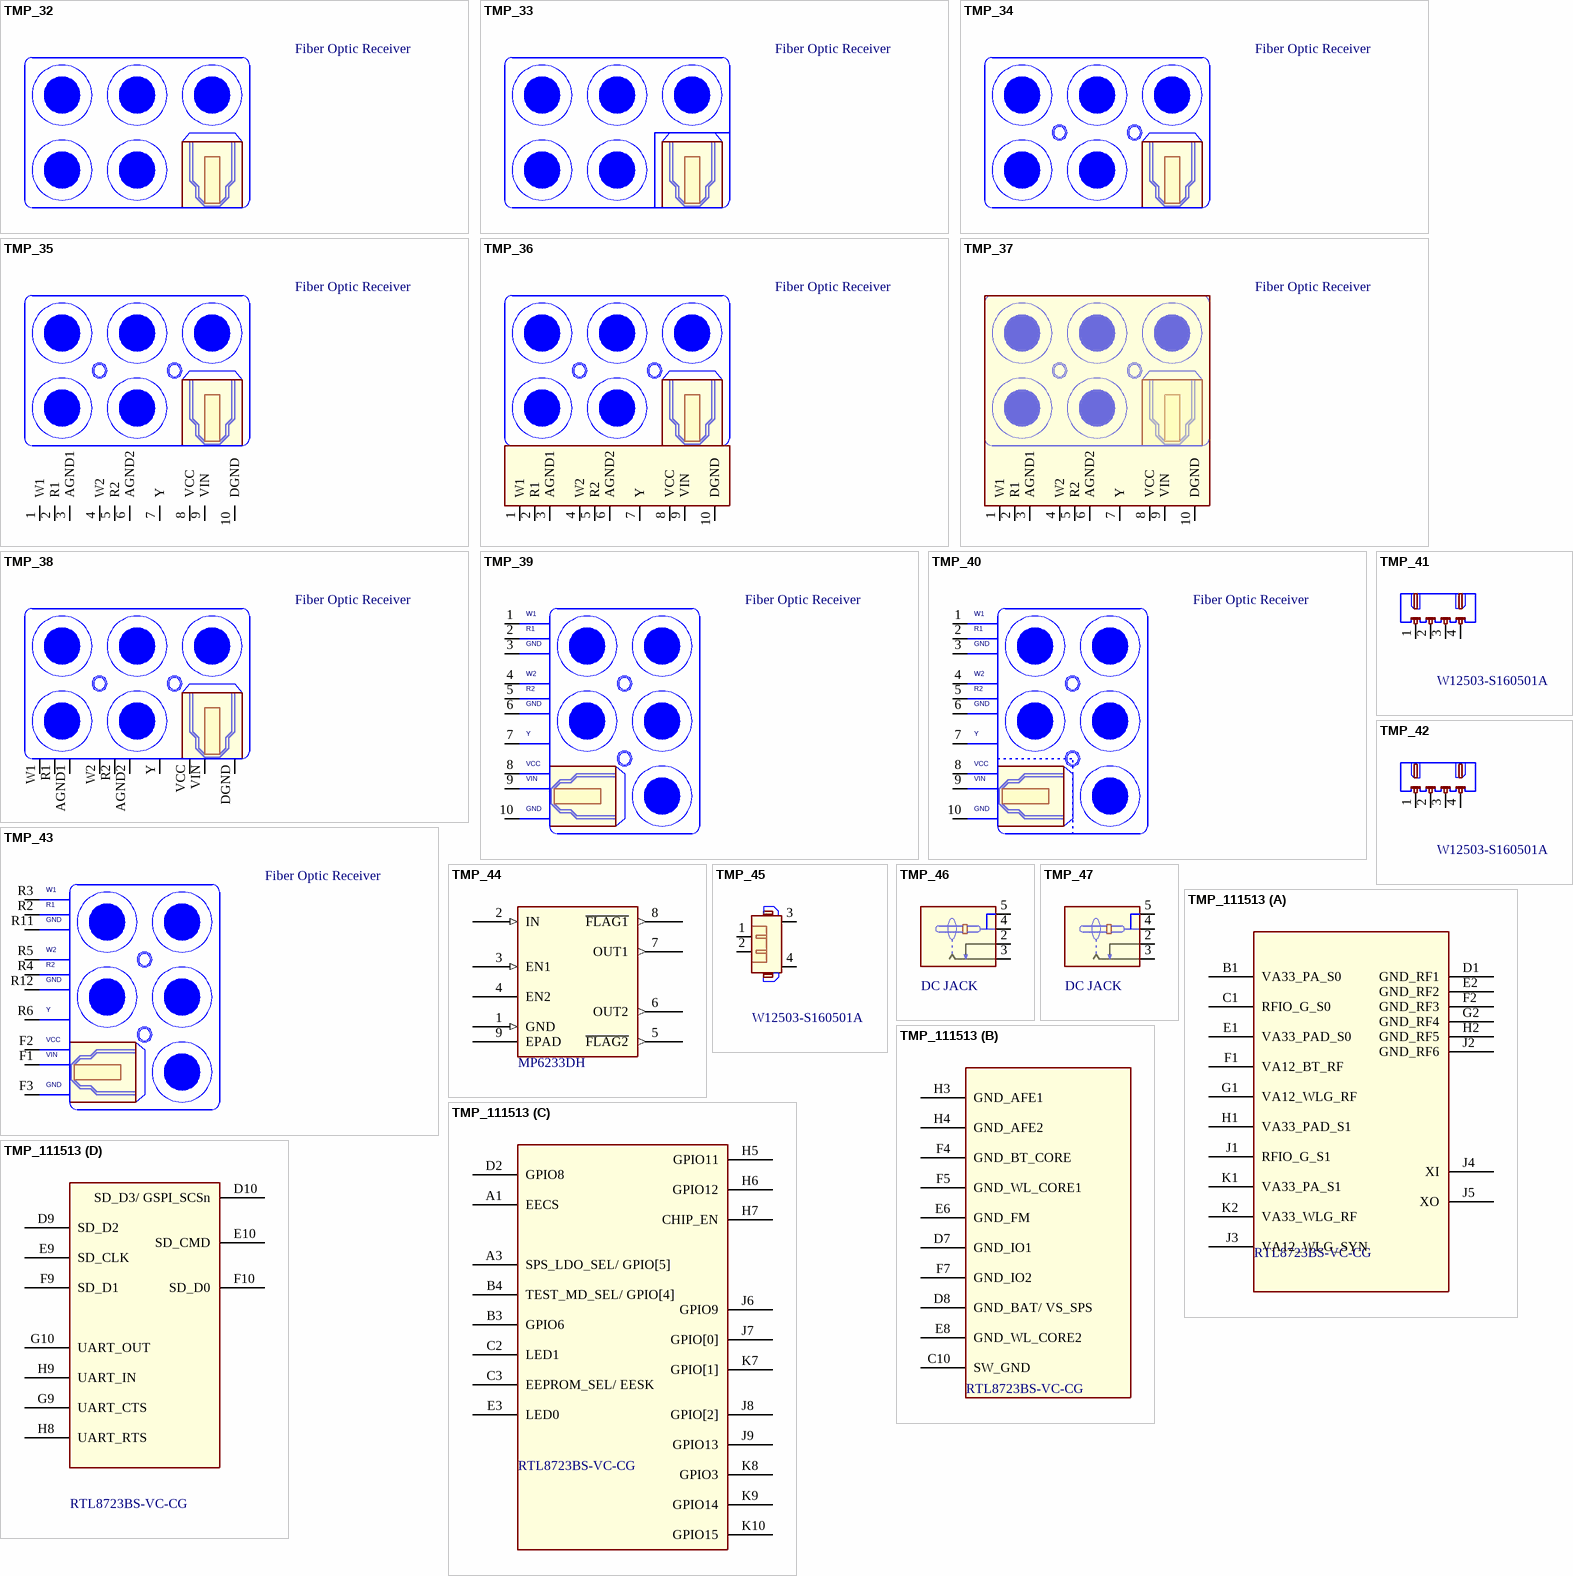
[diagram p10: symbols TMP_32 to TMP_111513]

## TMP_32
designator J?, comment Fiber Optic Receiver
CN,GP1FAV31RK0F,Fiber Optic Receiver Square connector; Vendor: SHARP; VPN: GP1FAV31RK0F
footprint FIBER-GP1FAV31RK0F

## TMP_33
designator J?, comment Fiber Optic Receiver
CN,GP1FAV31RK0F,Fiber Optic Receiver Square connector; Vendor: SHARP; VPN: GP1FAV31RK0F
footprint FIBER-GP1FAV31RK0F

## TMP_34
designator J?, comment Fiber Optic Receiver
CN,GP1FAV31RK0F,Fiber Optic Receiver Square connector; Vendor: SHARP; VPN: GP1FAV31RK0F
footprint FIBER-GP1FAV31RK0F

## TMP_35
designator J?, comment Fiber Optic Receiver
CN,GP1FAV31RK0F,Fiber Optic Receiver Square connector; Vendor: SHARP; VPN: GP1FAV31RK0F
footprint FIBER-GP1FAV31RK0F
pins: 1 W1, 2 R1, 3 AGND1, 4 W2, 5 R2, 6 AGND2, 7 Y, 8 VCC, 9 VIN, 10 DGND

## TMP_36
designator J?, comment Fiber Optic Receiver
CN,GP1FAV31RK0F,Fiber Optic Receiver Square connector; Vendor: SHARP; VPN: GP1FAV31RK0F
footprint FIBER-GP1FAV31RK0F
pins: 1 W1, 2 R1, 3 AGND1, 4 W2, 5 R2, 6 AGND2, 7 Y, 8 VCC, 9 VIN, 10 DGND

## TMP_37
designator J?, comment Fiber Optic Receiver
CN,GP1FAV31RK0F,Fiber Optic Receiver Square connector; Vendor: SHARP; VPN: GP1FAV31RK0F
footprint FIBER-GP1FAV31RK0F
pins: 1 W1, 2 R1, 3 AGND1, 4 W2, 5 R2, 6 AGND2, 7 Y, 8 VCC, 9 VIN, 10 DGND

## TMP_38
designator J?, comment Fiber Optic Receiver
CN,GP1FAV31RK0F,Fiber Optic Receiver Square connector; Vendor: SHARP; VPN: GP1FAV31RK0F
footprint FIBER-GP1FAV31RK0F
pins: AGND1, AGND2, DGND, R1, R2, VCC, VIN, W1, W2, Y

## TMP_39
designator J?, comment Fiber Optic Receiver
CN,GP1FAV31RK0F,Fiber Optic Receiver Square connector; Vendor: SHARP; VPN: GP1FAV31RK0F
footprint FIBER-GP1FAV31RK0F
pins: 1 W1, 2 R1, 3 AGND1, 4 W2, 5 R2, 6 AGND2, 7 Y, 8 VCC, 9 VIN, 10 DGND
text: GND

## TMP_40
designator J?, comment Fiber Optic Receiver
CN,GP1FAV31RK0F,Fiber Optic Receiver Square connector; Vendor: SHARP; VPN: GP1FAV31RK0F
footprint FIBER-GP1FAV31RK0F
pins: 1 W1, 2 R1, 3 AGND1, 4 W2, 5 R2, 6 AGND2, 7 Y, 8 VCC, 9 VIN, 10 DGND
text: GND

## TMP_41
designator J?, comment W12503-S160501A
CN,W12503-S160501A,1.25mm/3 PIN; Vendor: ATOM; VPN: W12503-S160501A
footprint W12503-S160501A
pins: 1, 2, 3, 4

## TMP_42
designator J?, comment W12503-S160501A
CN,W12503-S160501A,1.25mm/3 PIN; Vendor: ATOM; VPN: W12503-S160501A
footprint W12503-S160501A
pins: 1, 2, 3, 4

## TMP_43
designator J?, comment Fiber Optic Receiver
CN,GP1FAV31RK0F,Fiber Optic Receiver Square connector; Vendor: SHARP; VPN: GP1FAV31RK0F
footprint FIBER-GP1FAV31RK0F
pins: F1 VIN, F2 VCC, F3 DGND, R2 R1, R3 W1, R4 R2, R5 W2, R6 Y, R11 AGND1, R12 AGND2
text: GND

## TMP_44
designator U?, comment MP6233DH
IC,MP6233DH,MSO8E,1.5A CurrLimited Power Distribution Switch,Active 'H'; Vendor: MPS; VPN: MP6233DH
footprint msop8e
pins: 1 GND (in), 2 IN (in), 3 EN1 (in), 4 EN2 (power), 5 ~{FLAG2} (out), 6 OUT2 (out), 7 OUT1 (out), 8 ~{FLAG1} (out), 9 EPAD

## TMP_45
designator J?, comment W12503-S160501A
CN,W12503-S160501A,1.25mm/3 PIN; Vendor: ATOM; VPN: W12503-S160501A
footprint W12503-S160501A
pins: 1, 2, 3, 4

## TMP_46
designator J?, comment DC JACK
CN,ATOM010060020079,DC PWR JACK; CLASS: IO; Vendor: ATOM; VPN: ATOM010060020079
footprint ATOM010060020079
pins: 2, 3, 4, 5

## TMP_47
designator J?, comment DC JACK
CN,ATOM010060020079,DC PWR JACK; CLASS: IO; Vendor: ATOM; VPN: ATOM010060020079
footprint ATOM010060020079
pins: 2, 3, 4, 5

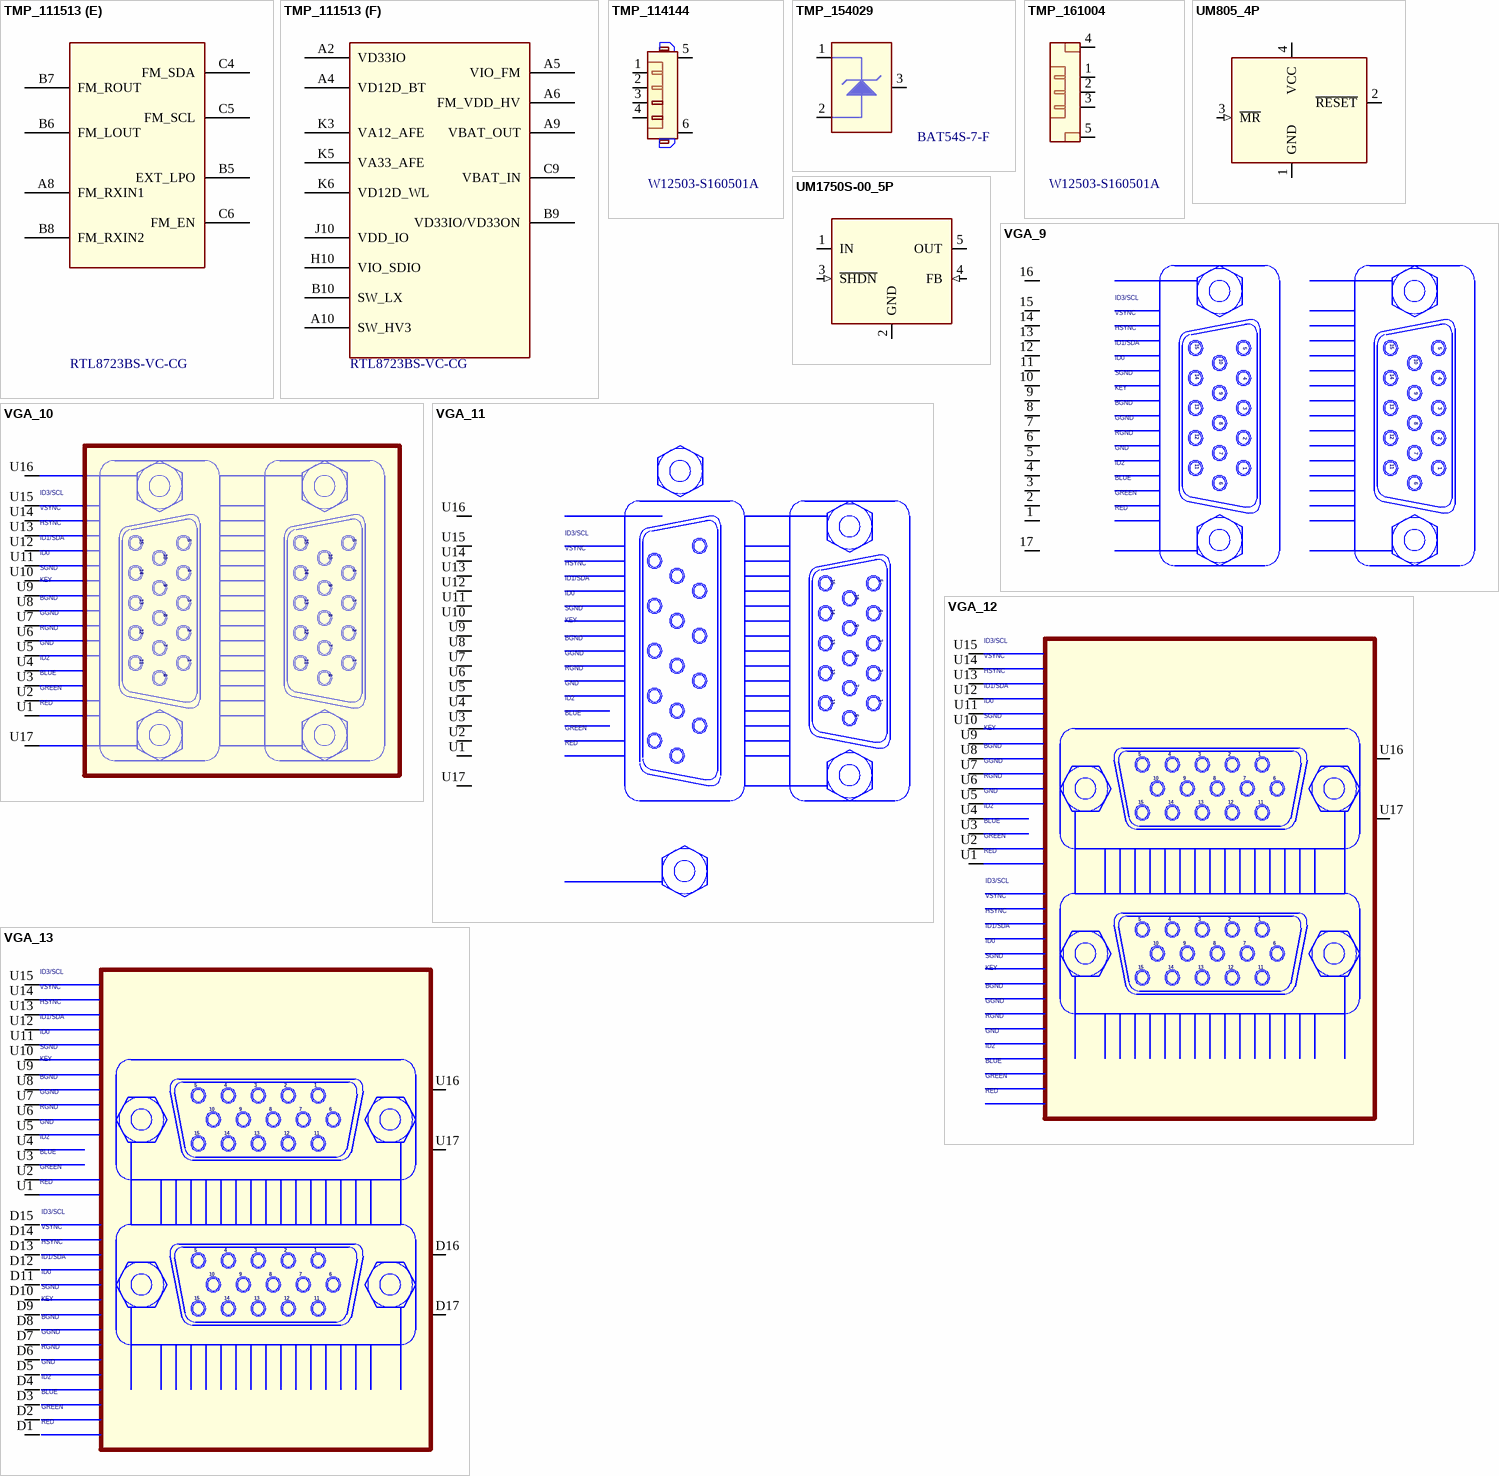
[diagram p11: symbols TMP_111513 to VGA_13]

## TMP_111513
designator U?, comment RTL8723BS-VC-CG
IC,RTL8723BS-VC-CG,TFBGA79,802.11b/g/n 1T1R WLAN,BLUETOOTH2.1/3.0/4.0,FM; Vendor: Realtek; VPN: RTL8723BS-VC-CG
footprint tfbga79_5p1x5p1mm
part A pins: B1 VA33_PA_S0, C1 RFIO_G_S0, D1 GND_RF1, E1 VA33_PAD_S0, E2 GND_RF2, F1 VA12_BT_RF, F2 GND_RF3, G1 VA12_WLG_RF, G2 GND_RF4, H1 VA33_PAD_S1, H2 GND_RF5, J1 RFIO_G_S1, J2 GND_RF6, J3 VA12_WLG_SYN, J4 XI, J5 XO, K1 VA33_PA_S1, K2 VA33_WLG_RF
part B pins: C10 SW_GND, D7 GND_IO1, D8 GND_BAT/ VS_SPS, E6 GND_FM, E8 GND_WL_CORE2, F4 GND_BT_CORE, F5 GND_WL_CORE1, F7 GND_IO2, H3 GND_AFE1, H4 GND_AFE2
part C pins: A1 EECS, A3 SPS_LDO_SEL/ GPIO[5], B3 GPIO6, B4 TEST_MD_SEL/ GPIO[4], C2 LED1, C3 EEPROM_SEL/ EESK, D2 GPIO8, E3 LED0, H5 GPIO11, H6 GPIO12, H7 CHIP_EN, J6 GPIO9, J7 GPIO[0], J8 GPIO[2], J9 GPIO13, K7 GPIO[1], K8 GPIO3, K9 GPIO14, K10 GPIO15
part D pins: D9 SD_D2, D10 SD_D3/ GSPI_SCSn, E9 SD_CLK, E10 SD_CMD, F9 SD_D1, F10 SD_D0, G9 UART_CTS, G10 UART_OUT, H8 UART_RTS, H9 UART_IN
part E pins: A8 FM_RXIN1, B5 EXT_LPO, B6 FM_LOUT, B7 FM_ROUT, B8 FM_RXIN2, C4 FM_SDA, C5 FM_SCL, C6 FM_EN
part F pins: A2 VD33IO, A4 VD12D_BT, A5 VIO_FM, A6 FM_VDD_HV, A9 VBAT_OUT, A10 SW_HV3, B9 VD33IO/VD33ON, B10 SW_LX, C9 VBAT_IN, H10 VIO_SDIO, J10 VDD_IO, K3 VA12_AFE, K5 VA33_AFE, K6 VD12D_WL

## TMP_114144
designator J?, comment W12503-S160501A
CN,W12503-S160501A,1.25mm/3 PIN; Vendor: ATOM; VPN: W12503-S160501A
footprint W12503-S160501A
pins: 1, 2, 3, 4, 5, 6

## TMP_154029
designator D?, comment BAT54S-7-F
DIOD,SCH,BAT54S,SOT23,30V,.2A ,Dual Diodes; Vendor: Diodes; VPN: BAT54S-7-F
footprint SOT23
pins: 1 ANODE1, 2 CATHODE2, 3 CATHODE1ANODE2

## TMP_161004
designator J?, comment W12503-S160501A
CN,W12503-S160501A,1.25mm/3 PIN; Vendor: ATOM; VPN: W12503-S160501A
footprint W12503-S160501A
pins: 1, 2, 3, 4, 5

## UM805_4P
designator U?
CLASS: IC
pins: 1 GND (power), 2 ~{RESET} (oc), 3 ~{MR} (in), 4 VCC (power)

## UM1750S-00_5P
designator U?
CLASS: IC
pins: 1 IN (power), 2 GND (power), 3 ~{SHDN} (in), 4 FB (in), 5 OUT (power)

## VGA_9
designator J?
footprint VGA
pins: 1 RED, 2 GREEN, 3 BLUE, 4 ID2, 5 GND, 6 RGND, 7 GGND, 8 BGND, 9 KEY, 10 SGND, 11 ID0, 12 ID1/SDA, 13 HSYNC, 14 VSYNC, 15 ID3/SCL, 16 M1, 17 M2

## VGA_10
designator J?
footprint VGA
pins: U1 RED, U2 GREEN, U3 BLUE, U4 ID2, U5 GND, U6 RGND, U7 GGND, U8 BGND, U9 KEY, U10 SGND, U11 ID0, U12 ID1/SDA, U13 HSYNC, U14 VSYNC, U15 ID3/SCL, U16 M1, U17 M2
text: 15; 5; 10; 14; 4; 9; 13; 3; 8; 12; 2; 7; 11; 1; 6

## VGA_11
designator J?
footprint VGA
pins: U1 RED, U2 GREEN, U3 BLUE, U4 ID2, U5 GND, U6 RGND, U7 GGND, U8 BGND, U9 KEY, U10 SGND, U11 ID0, U12 ID1/SDA, U13 HSYNC, U14 VSYNC, U15 ID3/SCL, U16 M1, U17 M2
text: 15; 5; 10; 14; 4; 9; 13; 3; 8; 12; 2; 7; 11; 1; 6

## VGA_12
designator J?
footprint VGA
pins: U1 RED, U2 GREEN, U3 BLUE, U4 ID2, U5 GND, U6 RGND, U7 GGND, U8 BGND, U9 KEY, U10 SGND, U11 ID0, U12 ID1/SDA, U13 HSYNC, U14 VSYNC, U15 ID3/SCL, U16 M1, U17 M2
text: 5; 4; 3; 2; 1; 10; 9; 8; 7; 6; 15; 14; 13; 12; 11

## VGA_13
designator J?
footprint VGA
pins: D1 RED_D, D2 GREEN_D, D3 BLUE_D, D4 ID2_D, D5 GND_D, D6 RGND_D, D7 GGND_D, D8 BGND_D, D9 KEY_D, D10 SGND_D, D11 ID0_~{D}, D12 ID1/SDA_D, D13 HSYNC_D, D14 VSYNC_D, D15 ID3/SCL_D, D16 M1_D, D17 M2_D, U1 RED_U, U2 GREEN_U, U3 BLUE_U, U4 ID2_U, U5 GND_U, U6 RGND_U, U7 GGND_U, U8 BGND_U, U9 KEY_U, U10 SGND_U, U11 ID0_U, U12 ID1/SDA_U, U13 HSYNC_U, U14 VSYNC_U, U15 ID3/SCL_U, U16 M1_U, U17 M2_U
text: ID3/SCL; VSYNC; HSYNC; ID1/SDA; ID0; SGND; KEY; BGND; 5; 4; 3; 2; 1; GGND; RGND; 10; 9; 8; 7; 6; GND; 15; 14; 13; 12; 11; ID2; BLUE; GREEN; RED

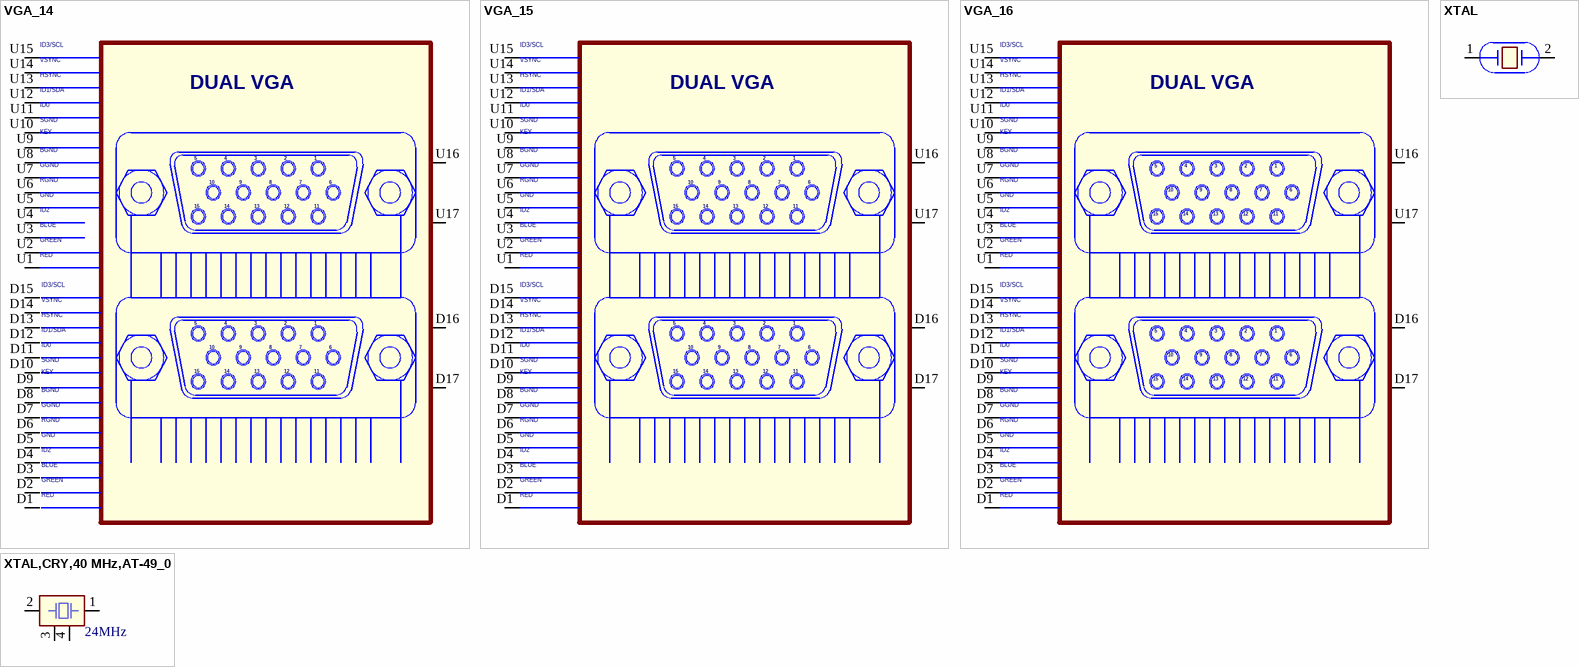
[diagram p12: symbols VGA_14 to XTAL,CRY,40 MHz,AT-49_0]

## VGA_14
designator J?
footprint VGA
pins: D1 RED_D, D2 GREEN_D, D3 BLUE_D, D4 ID2_D, D5 GND_D, D6 RGND_D, D7 GGND_D, D8 BGND_D, D9 KEY_D, D10 SGND_D, D11 ID0_~{D}, D12 ID1/SDA_D, D13 HSYNC_D, D14 VSYNC_D, D15 ID3/SCL_D, D16 M1_D, D17 M2_D, U1 RED_U, U2 GREEN_U, U3 BLUE_U, U4 ID2_U, U5 GND_U, U6 RGND_U, U7 GGND_U, U8 BGND_U, U9 KEY_U, U10 SGND_U, U11 ID0_U, U12 ID1/SDA_U, U13 HSYNC_U, U14 VSYNC_U, U15 ID3/SCL_U, U16 M1_U, U17 M2_U
text: ID3/SCL; VSYNC; HSYNC; ID1/SDA; DUAL VGA; ID0; SGND; KEY; BGND; 5; 4; 3; 2; 1; GGND; RGND; 10; 9; 8; 7; 6; GND; 15; 14; 13; 12; 11; ID2; BLUE; GREEN; RED

## VGA_15
designator J?
footprint VGA
pins: D1 RED_D, D2 GREEN_D, D3 BLUE_D, D4 ID2_D, D5 GND_D, D6 RGND_D, D7 GGND_D, D8 BGND_D, D9 KEY_D, D10 SGND_D, D11 ID0_~{D}, D12 ID1/SDA_D, D13 HSYNC_D, D14 VSYNC_D, D15 ID3/SCL_D, D16 M1_D, D17 M2_D, U1 RED_U, U2 GREEN_U, U3 BLUE_U, U4 ID2_U, U5 GND_U, U6 RGND_U, U7 GGND_U, U8 BGND_U, U9 KEY_U, U10 SGND_U, U11 ID0_U, U12 ID1/SDA_U, U13 HSYNC_U, U14 VSYNC_U, U15 ID3/SCL_U, U16 M1_U, U17 M2_U
text: ID3/SCL; VSYNC; HSYNC; ID1/SDA; DUAL VGA; ID0; SGND; KEY; BGND; 5; 4; 3; 2; 1; GGND; RGND; 10; 9; 8; 7; 6; GND; 15; 14; 13; 12; 11; ID2; BLUE; GREEN; RED

## VGA_16
designator J?
footprint VGA
pins: D1 RED_D, D2 GREEN_D, D3 BLUE_D, D4 ID2_D, D5 GND_D, D6 RGND_D, D7 GGND_D, D8 BGND_D, D9 KEY_D, D10 SGND_D, D11 ID0_~{D}, D12 ID1/SDA_D, D13 HSYNC_D, D14 VSYNC_D, D15 ID3/SCL_D, D16 M1_D, D17 M2_D, U1 RED_U, U2 GREEN_U, U3 BLUE_U, U4 ID2_U, U5 GND_U, U6 RGND_U, U7 GGND_U, U8 BGND_U, U9 KEY_U, U10 SGND_U, U11 ID0_U, U12 ID1/SDA_U, U13 HSYNC_U, U14 VSYNC_U, U15 ID3/SCL_U, U16 M1_U, U17 M2_U
text: ID3/SCL; VSYNC; HSYNC; ID1/SDA; DUAL VGA; ID0; SGND; KEY; BGND; GGND; 5; 4; 3; 2; 1; RGND; 10; 9; 8; 7; 6; GND; ID2; 15; 14; 13; 12; 11; BLUE; GREEN; RED

## XTAL
designator Y?
CLASS: IC
pins: 1, 2

## XTAL,CRY,40 MHz,AT-49_0
designator X?, comment 24MHz
XTAL,AT-49,24MHz,Crystal; CLASS: IC; Vendor: KDS; VPN: AT-49-24MHz
footprint AT-49
pins: 1, 2, 3, 4